# Altium schematic symbol library Microcontroller ARM.SchLib: 148 symbols (part 8 of 11)
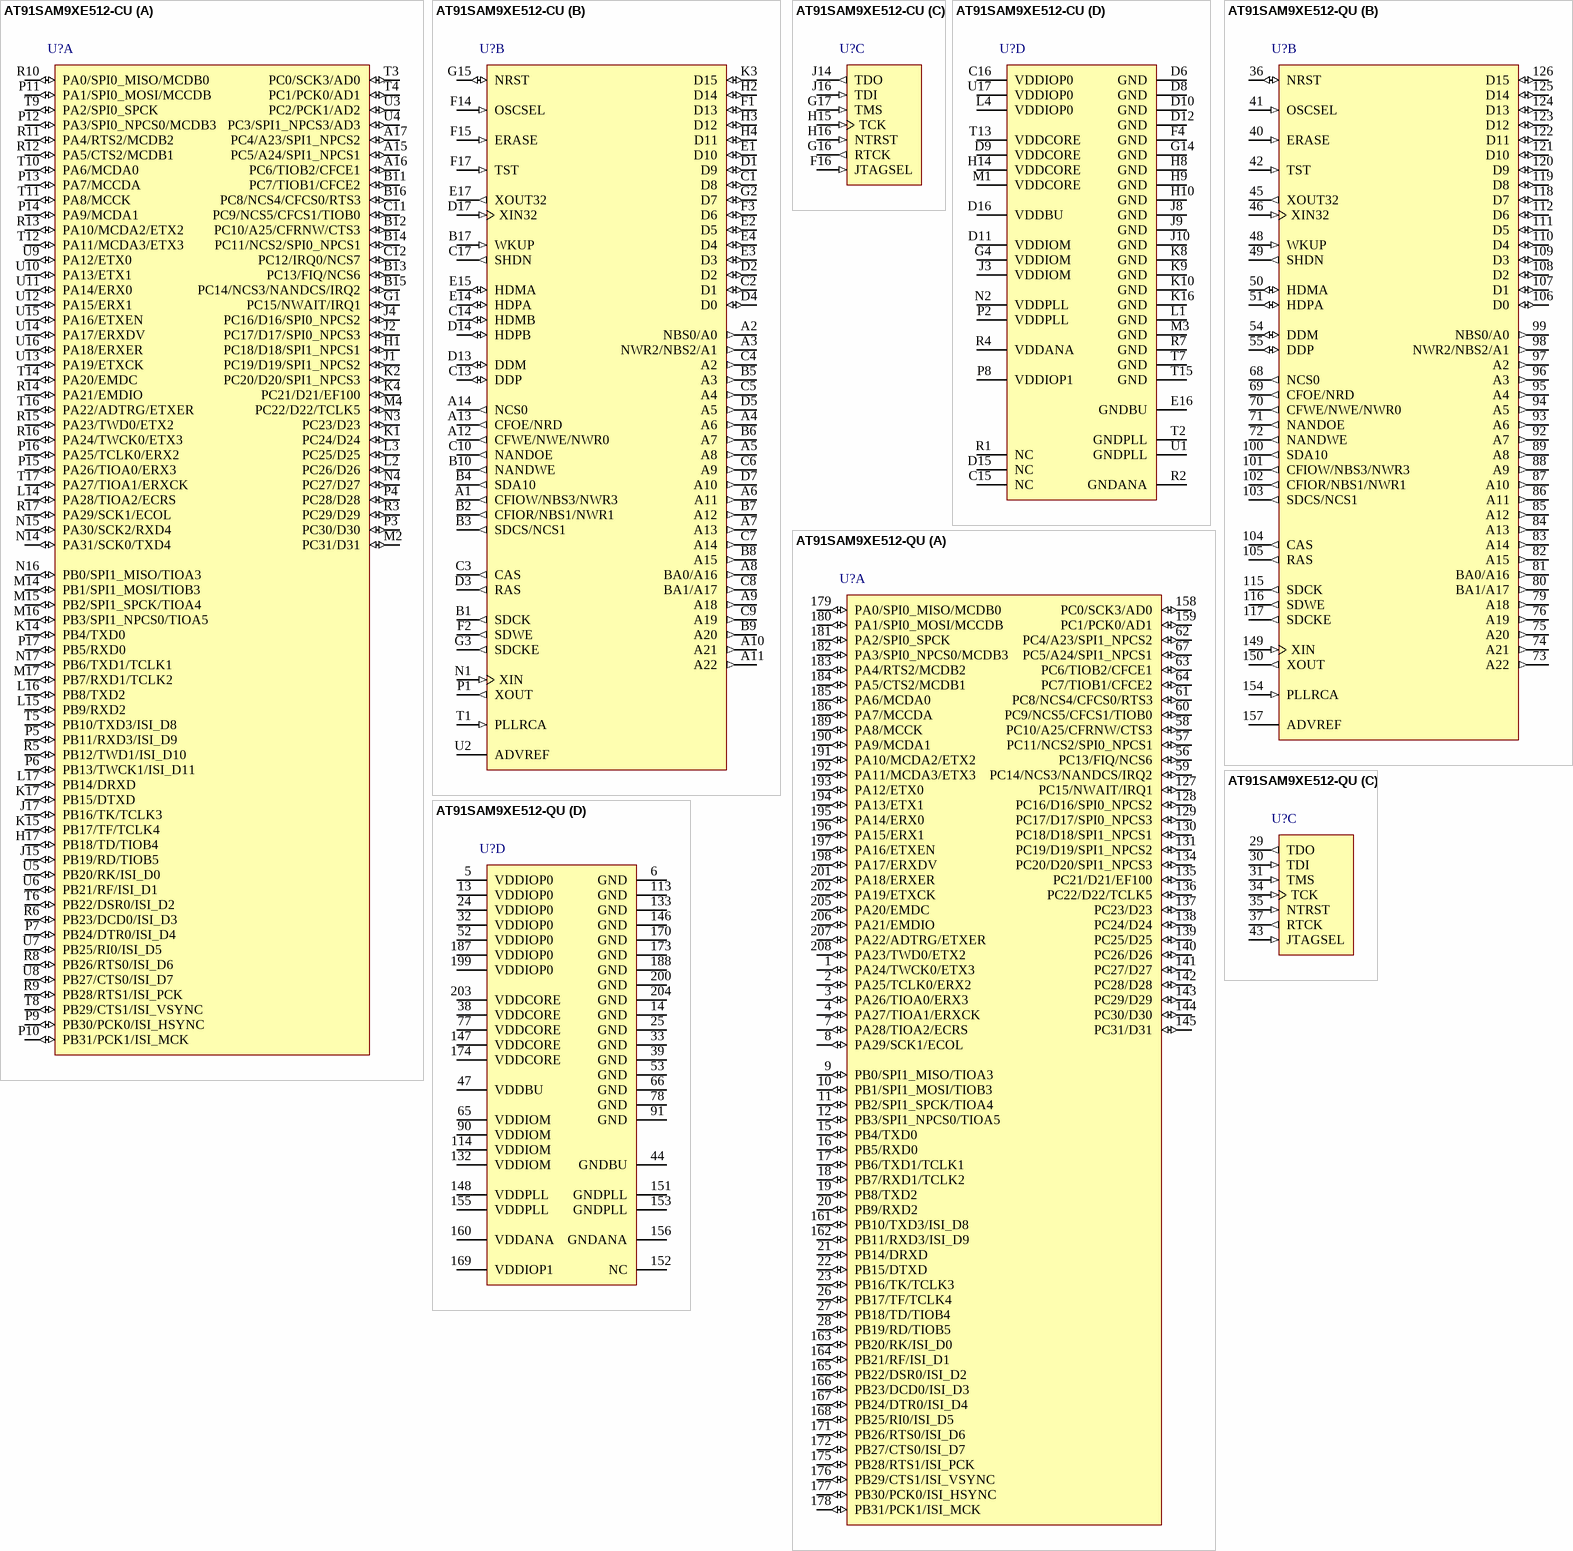
[diagram p68: symbols AT91SAM9XE512-CU to AT91SAM9XE512-QU]

## AT91SAM9XE512-QU
designator U?
AT91 ARM Thumb 32-bit Microcontroller, 512KB Flash, 32KB ROM, 32KB SRAM, EBI, E-MAC, FS USB, ISI, 208-Pin PQFP, Industrial Grade (-40°C to 85°C), Pb-Free; DatasheetVersion: revC, Jan-2010; PackageVersion: Jul-2005; PackageReference: QFP208; PackageDescription: 208-Pin Plastic Shrink Quad Flat Pack 0.5 mm Pitch; Code_JEDEC: MS-022; ComponentLink1Description: Manufacturer URL; ComponentLink1URL: http://www.atmel.com/; ComponentLink2Description: AT91SAM9XE128/256/512 Datasheet; ComponentLink2URL: http://www.atmel.com/dyn/resources/prod_documents/doc6254.pdf; ComponentLink3Description: AT91SAM9XE128/256/512 Summary; ComponentLink3URL: http://www.atmel.com/dyn/resources/prod_documents/6254s.pdf; ComponentLink4Description: ARM926EJ-S Reference Manual; ComponentLink4URL: http://www.atmel.com/dyn/resources/prod_documents/ARM_926EJS_TRM.pdf
footprint QFP208_N (Shrink QFP, 208-Leads, Body 28x28mm, Pitch 0.5mm, IPC Medium Density)
footprint QFP208_L (Shrink QFP, 208-Leads, Body 28x28mm, Pitch 0.5mm, IPC High Density)
footprint QFP208_M (Shrink QFP, 208-Leads, Body 28x28mm, Pitch 0.5mm, IPC Low Density)
part A pins: 1 PA24/TWCK0/ETX3 (io), 2 PA25/TCLK0/ERX2 (io), 3 PA26/TIOA0/ERX3 (io), 4 PA27/TIOA1/ERXCK (io), 7 PA28/TIOA2/ECRS (io), 8 PA29/SCK1/ECOL (io), 9 PB0/SPI1_MISO/TIOA3 (io), 10 PB1/SPI1_MOSI/TIOB3 (io), 11 PB2/SPI1_SPCK/TIOA4 (io), 12 PB3/SPI1_NPCS0/TIOA5 (io), 15 PB4/TXD0 (io), 16 PB5/RXD0 (io), 17 PB6/TXD1/TCLK1 (io), 18 PB7/RXD1/TCLK2 (io), 19 PB8/TXD2 (io), 20 PB9/RXD2 (io), 21 PB14/DRXD (io), 22 PB15/DTXD (io), 23 PB16/TK/TCLK3 (io), 26 PB17/TF/TCLK4 (io), 27 PB18/TD/TIOB4 (io), 28 PB19/RD/TIOB5 (io), 56 PC13/FIQ/NCS6 (io), 57 PC11/NCS2/SPI0_NPCS1 (io), 58 PC10/A25/CFRNW/CTS3 (io), 59 PC14/NCS3/NANDCS/IRQ2 (io), 60 PC9/NCS5/CFCS1/TIOB0 (io), 61 PC8/NCS4/CFCS0/RTS3 (io), 62 PC4/A23/SPI1_NPCS2 (io), 63 PC6/TIOB2/CFCE1 (io), 64 PC7/TIOB1/CFCE2 (io), 67 PC5/A24/SPI1_NPCS1 (io), 127 PC15/NWAIT/IRQ1 (io), 128 PC16/D16/SPI0_NPCS2 (io), 129 PC17/D17/SPI0_NPCS3 (io), 130 PC18/D18/SPI1_NPCS1 (io), 131 PC19/D19/SPI1_NPCS2 (io), 134 PC20/D20/SPI1_NPCS3 (io), 135 PC21/D21/EF100 (io), 136 PC22/D22/TCLK5 (io), 137 PC23/D23 (io), 138 PC24/D24 (io), 139 PC25/D25 (io), 140 PC26/D26 (io), 141 PC27/D27 (io), 142 PC28/D28 (io), 143 PC29/D29 (io), 144 PC30/D30 (io), 145 PC31/D31 (io), 158 PC0/SCK3/AD0 (io), 159 PC1/PCK0/AD1 (io), 161 PB10/TXD3/ISI_D8 (io), 162 PB11/RXD3/ISI_D9 (io), 163 PB20/RK/ISI_D0 (io), 164 PB21/RF/ISI_D1 (io), 165 PB22/DSR0/ISI_D2 (io), 166 PB23/DCD0/ISI_D3 (io), 167 PB24/DTR0/ISI_D4 (io), 168 PB25/RI0/ISI_D5 (io), 171 PB26/RTS0/ISI_D6 (io), 172 PB27/CTS0/ISI_D7 (io), 175 PB28/RTS1/ISI_PCK (io), 176 PB29/CTS1/ISI_VSYNC (io), 177 PB30/PCK0/ISI_HSYNC (io), 178 PB31/PCK1/ISI_MCK (io), 179 PA0/SPI0_MISO/MCDB0 (io), 180 PA1/SPI0_MOSI/MCCDB (io), 181 PA2/SPI0_SPCK (io), 182 PA3/SPI0_NPCS0/MCDB3 (io), 183 PA4/RTS2/MCDB2 (io), 184 PA5/CTS2/MCDB1 (io), 185 PA6/MCDA0 (io), 186 PA7/MCCDA (io), 189 PA8/MCCK (io), 190 PA9/MCDA1 (io), 191 PA10/MCDA2/ETX2 (io), 192 PA11/MCDA3/ETX3 (io), 193 PA12/ETX0 (io), 194 PA13/ETX1 (io), 195 PA14/ERX0 (io), 196 PA15/ERX1 (io), 197 PA16/ETXEN (io), 198 PA17/ERXDV (io), 201 PA18/ERXER (io), 202 PA19/ETXCK (io), 205 PA20/EMDC (io), 206 PA21/EMDIO (io), 207 PA22/ADTRG/ETXER (io), 208 PA23/TWD0/ETX2 (io)
part B pins: 36 NRST (io), 40 ERASE (in), 41 OSCSEL (in), 42 TST (in), 45 XOUT32 (out), 46 XIN32 (in), 48 WKUP (in), 49 SHDN (out), 50 HDMA (io), 51 HDPA (io), 54 DDM (io), 55 DDP (io), 68 NCS0 (out), 69 CFOE/NRD (out), 70 CFWE/NWE/NWR0 (out), 71 NANDOE (out), 72 NANDWE (out), 73 A22 (out), 74 A21 (out), 75 A20 (out), 76 A19 (out), 79 A18 (out), 80 BA1/A17 (out), 81 BA0/A16 (out), 82 A15 (out), 83 A14 (out), 84 A13 (out), 85 A12 (out), 86 A11 (out), 87 A10 (out), 88 A9 (out), 89 A8 (out), 92 A7 (out), 93 A6 (out), 94 A5 (out), 95 A4 (out), 96 A3 (out), 97 A2 (out), 98 NWR2/NBS2/A1 (out), 99 NBS0/A0 (out), 100 SDA10 (out), 101 CFIOW/NBS3/NWR3 (out), 102 CFIOR/NBS1/NWR1 (out), 103 SDCS/NCS1 (out), 104 CAS (out), 105 RAS (out), 106 D0 (io), 107 D1 (io), 108 D2 (io), 109 D3 (io), 110 D4 (io), 111 D5 (io), 112 D6 (io), 115 SDCK (out), 116 SDWE (out), 117 SDCKE (out), 118 D7 (io), 119 D8 (io), 120 D9 (io), 121 D10 (io), 122 D11 (io), 123 D12 (io), 124 D13 (io), 125 D14 (io), 126 D15 (io), 149 XIN (in), 150 XOUT (out), 154 PLLRCA (in), 157 ADVREF (power)
part C pins: 29 TDO (out), 30 TDI (in), 31 TMS (in), 34 TCK (in), 35 NTRST (in), 37 RTCK (out), 43 JTAGSEL (in)
part D pins: 5 VDDIOP0 (power), 6 GND (power), 13 VDDIOP0 (power), 14 GND (power), 24 VDDIOP0 (power), 25 GND (power), 32 VDDIOP0 (power), 33 GND (power), 38 VDDCORE (power), 39 GND (power), 44 GNDBU (power), 47 VDDBU (power), 52 VDDIOP0 (power), 53 GND (power), 65 VDDIOM (power), 66 GND (power), 77 VDDCORE (power), 78 GND (power), 90 VDDIOM (power), 91 GND (power), 113 GND (power), 114 VDDIOM (power), 132 VDDIOM (power), 133 GND (power), 146 GND (power), 147 VDDCORE (power), 148 VDDPLL (power), 151 GNDPLL (power), 152 NC, 153 GNDPLL (power), 155 VDDPLL (power), 156 GNDANA (power), 160 VDDANA (power), 169 VDDIOP1 (power), 170 GND (power), 173 GND (power), 174 VDDCORE (power), 187 VDDIOP0 (power), 188 GND (power), 199 VDDIOP0 (power), 200 GND (power), 203 VDDCORE (power), 204 GND (power)

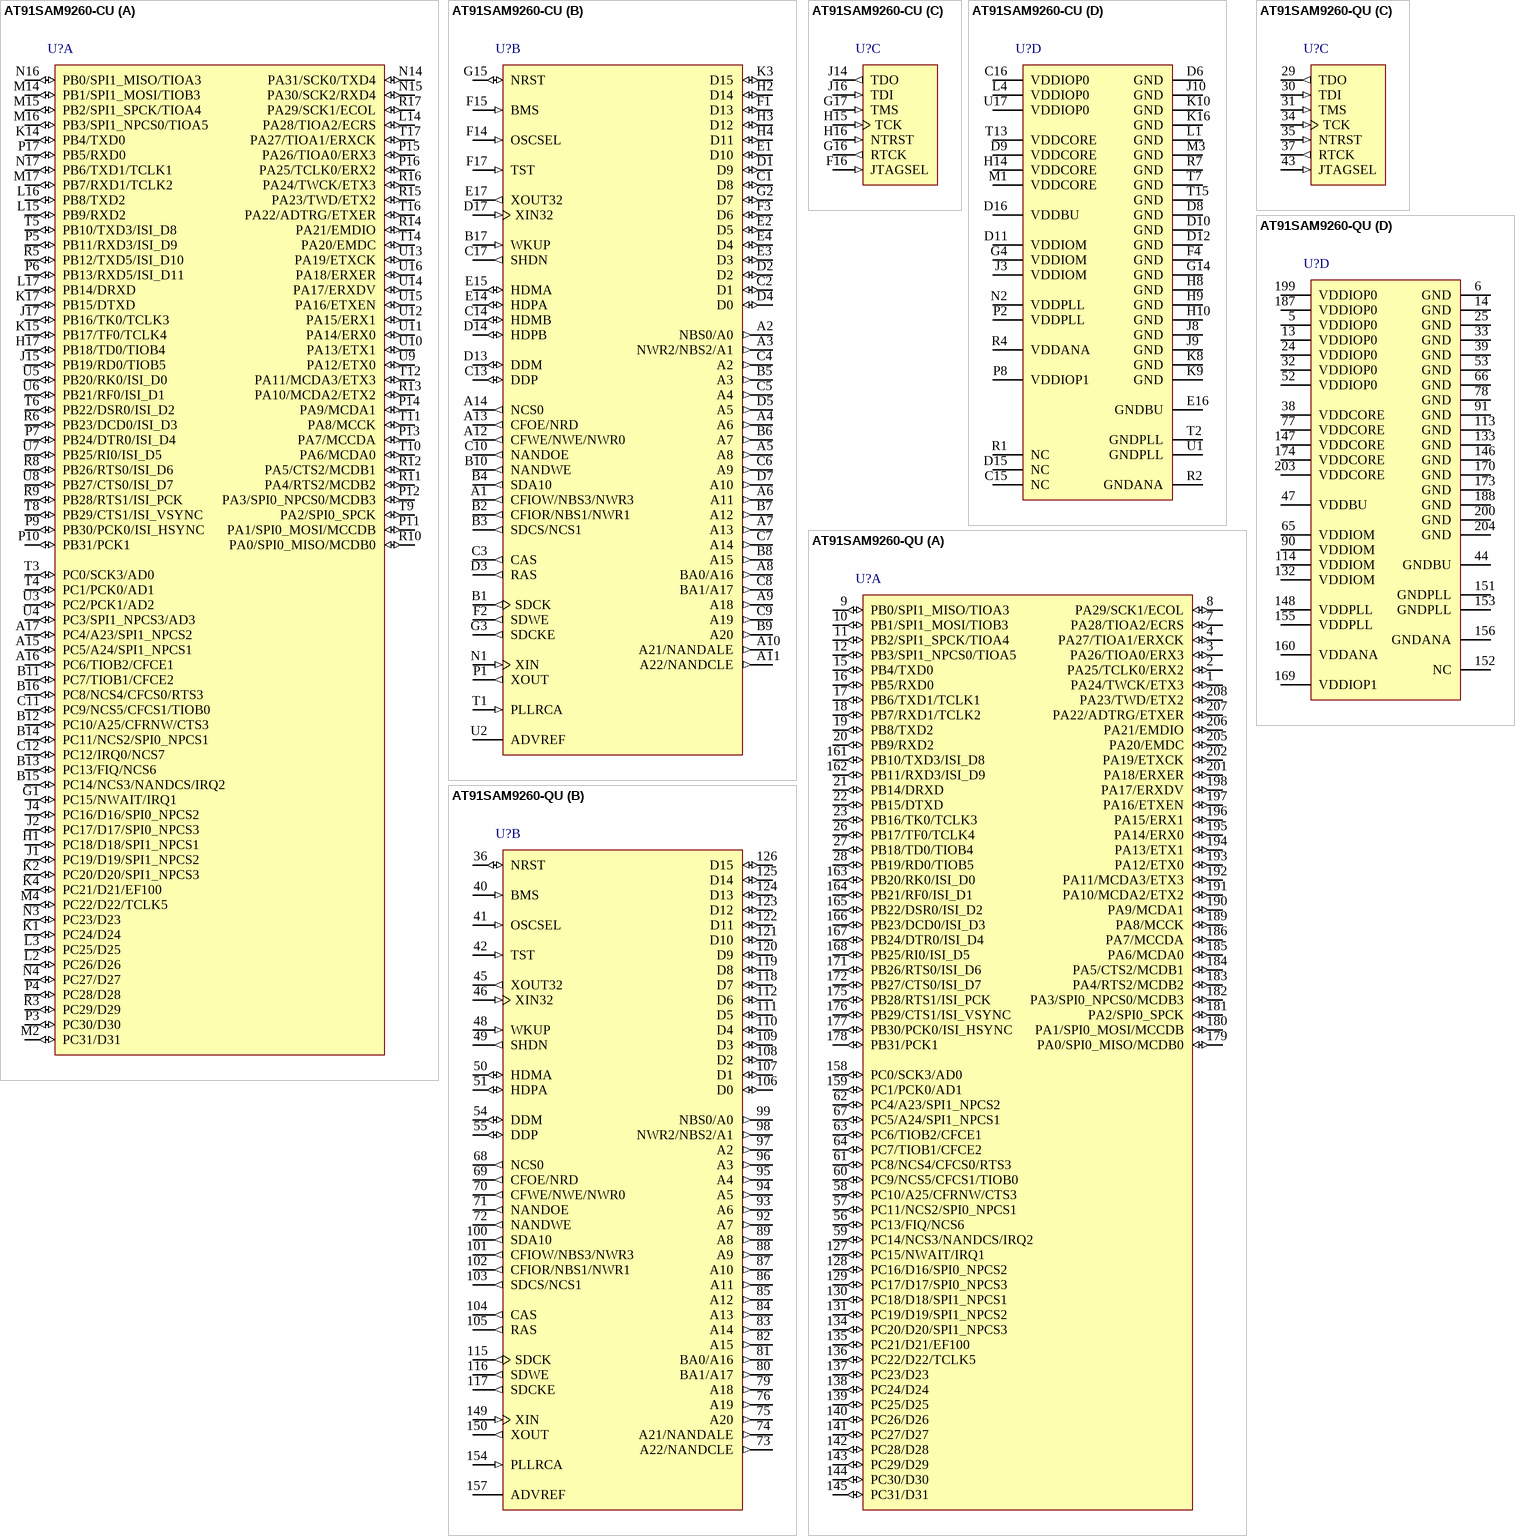
[diagram p44: symbols AT91SAM9260-CU to AT91SAM9260-QU]

## AT91SAM9260-CU
designator U?
AT91 ARM Thumb 32-bit Embedded MPU, 210MHz, 32KB ROM, 2x4KB SRAM, EBI, E-MAC, FS USB, 217-Pin LFBGA, Industrial Grade (-40°C to 85°C), Pb-Free; DatasheetVersion: revJ, May-2011; PackageVersion: 2011; PackageReference: LFBGA217; PackageDescription: 217-Ball Plastic Low Profile Fine-Pitch BGA, 15 x 15 mm Body, 0.8 mm Pitch; Code_JEDEC: MO-205; ComponentLink1Description: Manufacturer URL; ComponentLink1URL: http://www.atmel.com/; ComponentLink2Description: AT91SAM9260 Datasheet; ComponentLink2URL: http://www.atmel.com/dyn/resources/prod_documents/doc6221.pdf; ComponentLink3Description: AT91SAM9260 Summary; ComponentLink3URL: http://www.atmel.com/dyn/resources/prod_documents/6221s.pdf; ComponentLink4Description: ARM9E-S Reference Manual; ComponentLink4URL: http://www.atmel.com/dyn/resources/prod_documents/doc6178.pdf
footprint LFBGA217 (BGA, 208-Leads, Body 15x15mm, Pitch 0.8mm, Solder Mask Defined Pads)
part A pins: A15 PC5/A24/SPI1_NPCS1 (io), A16 PC6/TIOB2/CFCE1 (io), A17 PC4/A23/SPI1_NPCS2 (io), B11 PC7/TIOB1/CFCE2 (io), B12 PC10/A25/CFRNW/CTS3 (io), B13 PC13/FIQ/NCS6 (io), B14 PC11/NCS2/SPI0_NPCS1 (io), B15 PC14/NCS3/NANDCS/IRQ2 (io), B16 PC8/NCS4/CFCS0/RTS3 (io), C11 PC9/NCS5/CFCS1/TIOB0 (io), C12 PC12/IRQ0/NCS7 (io), G1 PC15/NWAIT/IRQ1 (io), H1 PC18/D18/SPI1_NPCS1 (io), H17 PB18/TD0/TIOB4 (io), J1 PC19/D19/SPI1_NPCS2 (io), J2 PC17/D17/SPI0_NPCS3 (io), J4 PC16/D16/SPI0_NPCS2 (io), J15 PB19/RD0/TIOB5 (io), J17 PB16/TK0/TCLK3 (io), K1 PC24/D24 (io), K2 PC20/D20/SPI1_NPCS3 (io), K4 PC21/D21/EF100 (io), K14 PB4/TXD0 (io), K15 PB17/TF0/TCLK4 (io), K17 PB15/DTXD (io), L2 PC26/D26 (io), L3 PC25/D25 (io), L14 PA28/TIOA2/ECRS (io), L15 PB9/RXD2 (io), L16 PB8/TXD2 (io), L17 PB14/DRXD (io), M2 PC31/D31 (io), M4 PC22/D22/TCLK5 (io), M14 PB1/SPI1_MOSI/TIOB3 (io), M15 PB2/SPI1_SPCK/TIOA4 (io), M16 PB3/SPI1_NPCS0/TIOA5 (io), M17 PB7/RXD1/TCLK2 (io), N3 PC23/D23 (io), N4 PC27/D27 (io), N14 PA31/SCK0/TXD4 (io), N15 PA30/SCK2/RXD4 (io), N16 PB0/SPI1_MISO/TIOA3 (io), N17 PB6/TXD1/TCLK1 (io), P3 PC30/D30 (io), P4 PC28/D28 (io), P5 PB11/RXD3/ISI_D9 (io), P6 PB13/RXD5/ISI_D11 (io), P7 PB24/DTR0/ISI_D4 (io), P9 PB30/PCK0/ISI_HSYNC (io), P10 PB31/PCK1 (io), P11 PA1/SPI0_MOSI/MCCDB (io), P12 PA3/SPI0_NPCS0/MCDB3 (io), P13 PA7/MCCDA (io), P14 PA9/MCDA1 (io), P15 PA26/TIOA0/ERX3 (io), P16 PA25/TCLK0/ERX2 (io), P17 PB5/RXD0 (io), R3 PC29/D29 (io), R5 PB12/TXD5/ISI_D10 (io), R6 PB23/DCD0/ISI_D3 (io), R8 PB26/RTS0/ISI_D6 (io), R9 PB28/RTS1/ISI_PCK (io), R10 PA0/SPI0_MISO/MCDB0 (io), R11 PA4/RTS2/MCDB2 (io), R12 PA5/CTS2/MCDB1 (io), R13 PA10/MCDA2/ETX2 (io), R14 PA21/EMDIO (io), R15 PA23/TWD/ETX2 (io), R16 PA24/TWCK/ETX3 (io), R17 PA29/SCK1/ECOL (io), T3 PC0/SCK3/AD0 (io), T4 PC1/PCK0/AD1 (io), T5 PB10/TXD3/ISI_D8 (io), T6 PB22/DSR0/ISI_D2 (io), T8 PB29/CTS1/ISI_VSYNC (io), T9 PA2/SPI0_SPCK (io), T10 PA6/MCDA0 (io), T11 PA8/MCCK (io), T12 PA11/MCDA3/ETX3 (io), T14 PA20/EMDC (io), T16 PA22/ADTRG/ETXER (io), T17 PA27/TIOA1/ERXCK (io), U3 PC2/PCK1/AD2 (io), U4 PC3/SPI1_NPCS3/AD3 (io), U5 PB20/RK0/ISI_D0 (io), U6 PB21/RF0/ISI_D1 (io), U7 PB25/RI0/ISI_D5 (io), U8 PB27/CTS0/ISI_D7 (io), U9 PA12/ETX0 (io), U10 PA13/ETX1 (io), U11 PA14/ERX0 (io), U12 PA15/ERX1 (io), U13 PA19/ETXCK (io), U14 PA17/ERXDV (io), U15 PA16/ETXEN (io), U16 PA18/ERXER (io)
part B pins: A1 CFIOW/NBS3/NWR3 (out), A2 NBS0/A0 (out), A3 NWR2/NBS2/A1 (out), A4 A6 (out), A5 A8 (out), A6 A11 (out), A7 A13 (out), A8 BA0/A16 (out), A9 A18 (out), A10 A21/NANDALE (out), A11 A22/NANDCLE (out), A12 CFWE/NWE/NWR0 (out), A13 CFOE/NRD (out), A14 NCS0 (out), B1 SDCK (out), B2 CFIOR/NBS1/NWR1 (out), B3 SDCS/NCS1 (out), B4 SDA10 (out), B5 A3 (out), B6 A7 (out), B7 A12 (out), B8 A15 (out), B9 A20 (out), B10 NANDWE (out), B17 WKUP (in), C1 D8 (io), C2 D1 (io), C3 CAS (out), C4 A2 (out), C5 A4 (out), C6 A9 (out), C7 A14 (out), C8 BA1/A17 (out), C9 A19 (out), C10 NANDOE (out), C13 DDP (io), C14 HDMB (io), C17 SHDN (out), D1 D9 (io), D2 (io), D3 RAS (out), D4 D0 (io), D5 A5 (out), D7 A10 (out), D13 DDM (io), D14 HDPB (io), D17 XIN32 (in), E1 D10 (io), E2 D5 (io), E3 D3 (io), E4 D4 (io), E14 HDPA (io), E15 HDMA (io), E17 XOUT32 (out), F1 D13 (io), F2 SDWE (out), F3 D6 (io), F14 OSCSEL (in), F15 BMS (in), F17 TST (in), G2 D7 (io), G3 SDCKE (out), G15 NRST (io), H2 D14 (io), H3 D12 (io), H4 D11 (io), K3 D15 (io), N1 XIN (in), P1 XOUT (out), T1 PLLRCA (in), U2 ADVREF (power)
part C pins: F16 JTAGSEL (in), G16 RTCK (out), G17 TMS (in), H15 TCK (in), H16 NTRST (in), J14 TDO (out), J16 TDI (in)
part D pins: C15 NC, C16 VDDIOP0 (power), D6 GND (power), D8 GND (power), D9 VDDCORE (power), D10 GND (power), D11 VDDIOM (power), D12 GND (power), D15 NC, D16 VDDBU (power), E16 GNDBU (power), F4 GND (power), G4 VDDIOM (power), G14 GND (power), H8 GND (power), H9 GND (power), H10 GND (power), H14 VDDCORE (power), J3 VDDIOM (power), J8 GND (power), J9 GND (power), J10 GND (power), K8 GND (power), K9 GND (power), K10 GND (power), K16 GND (power), L1 GND (power), L4 VDDIOP0 (power), M1 VDDCORE (power), M3 GND (power), N2 VDDPLL (power), P2 VDDPLL (power), P8 VDDIOP1 (power), R1 NC, R2 GNDANA (power), R4 VDDANA (power), R7 GND (power), T2 GNDPLL (power), T7 GND (power), T13 VDDCORE (power), T15 GND (power), U1 GNDPLL (power), U17 VDDIOP0 (power)

## AT91SAM9260-QU
designator U?
AT91 ARM Thumb 32-bit Embedded MPU, 210MHz, 32KB ROM, 2x4KB SRAM, EBI, E-MAC, FS USB, 208-Pin PQFP, Industrial Grade (-40°C to 85°C), Pb-Free; DatasheetVersion: revJ, May-2011; PackageVersion: Jul-2005; PackageReference: QFP208; PackageDescription: 208-Pin Plastic Shrink Quad Flat Pack 0.5 mm Pitch; Code_JEDEC: MS-022; ComponentLink1Description: Manufacturer URL; ComponentLink1URL: http://www.atmel.com/; ComponentLink2Description: AT91SAM9260 Datasheet; ComponentLink2URL: http://www.atmel.com/dyn/resources/prod_documents/doc6221.pdf; ComponentLink3Description: AT91SAM9260 Summary; ComponentLink3URL: http://www.atmel.com/dyn/resources/prod_documents/6221s.pdf; ComponentLink4Description: ARM9E-S Reference Manual; ComponentLink4URL: http://www.atmel.com/dyn/resources/prod_documents/doc6178.pdf
footprint QFP208_N (Shrink QFP, 208-Leads, Body 28x28mm, Pitch 0.5mm, IPC Medium Density)
footprint QFP208_L (Shrink QFP, 208-Leads, Body 28x28mm, Pitch 0.5mm, IPC High Density)
footprint QFP208_M (Shrink QFP, 208-Leads, Body 28x28mm, Pitch 0.5mm, IPC Low Density)
part A pins: 1 PA24/TWCK/ETX3 (io), 2 PA25/TCLK0/ERX2 (io), 3 PA26/TIOA0/ERX3 (io), 4 PA27/TIOA1/ERXCK (io), 7 PA28/TIOA2/ECRS (io), 8 PA29/SCK1/ECOL (io), 9 PB0/SPI1_MISO/TIOA3 (io), 10 PB1/SPI1_MOSI/TIOB3 (io), 11 PB2/SPI1_SPCK/TIOA4 (io), 12 PB3/SPI1_NPCS0/TIOA5 (io), 15 PB4/TXD0 (io), 16 PB5/RXD0 (io), 17 PB6/TXD1/TCLK1 (io), 18 PB7/RXD1/TCLK2 (io), 19 PB8/TXD2 (io), 20 PB9/RXD2 (io), 21 PB14/DRXD (io), 22 PB15/DTXD (io), 23 PB16/TK0/TCLK3 (io), 26 PB17/TF0/TCLK4 (io), 27 PB18/TD0/TIOB4 (io), 28 PB19/RD0/TIOB5 (io), 56 PC13/FIQ/NCS6 (io), 57 PC11/NCS2/SPI0_NPCS1 (io), 58 PC10/A25/CFRNW/CTS3 (io), 59 PC14/NCS3/NANDCS/IRQ2 (io), 60 PC9/NCS5/CFCS1/TIOB0 (io), 61 PC8/NCS4/CFCS0/RTS3 (io), 62 PC4/A23/SPI1_NPCS2 (io), 63 PC6/TIOB2/CFCE1 (io), 64 PC7/TIOB1/CFCE2 (io), 67 PC5/A24/SPI1_NPCS1 (io), 127 PC15/NWAIT/IRQ1 (io), 128 PC16/D16/SPI0_NPCS2 (io), 129 PC17/D17/SPI0_NPCS3 (io), 130 PC18/D18/SPI1_NPCS1 (io), 131 PC19/D19/SPI1_NPCS2 (io), 134 PC20/D20/SPI1_NPCS3 (io), 135 PC21/D21/EF100 (io), 136 PC22/D22/TCLK5 (io), 137 PC23/D23 (io), 138 PC24/D24 (io), 139 PC25/D25 (io), 140 PC26/D26 (io), 141 PC27/D27 (io), 142 PC28/D28 (io), 143 PC29/D29 (io), 144 PC30/D30 (io), 145 PC31/D31 (io), 158 PC0/SCK3/AD0 (io), 159 PC1/PCK0/AD1 (io), 161 PB10/TXD3/ISI_D8 (io), 162 PB11/RXD3/ISI_D9 (io), 163 PB20/RK0/ISI_D0 (io), 164 PB21/RF0/ISI_D1 (io), 165 PB22/DSR0/ISI_D2 (io), 166 PB23/DCD0/ISI_D3 (io), 167 PB24/DTR0/ISI_D4 (io), 168 PB25/RI0/ISI_D5 (io), 171 PB26/RTS0/ISI_D6 (io), 172 PB27/CTS0/ISI_D7 (io), 175 PB28/RTS1/ISI_PCK (io), 176 PB29/CTS1/ISI_VSYNC (io), 177 PB30/PCK0/ISI_HSYNC (io), 178 PB31/PCK1 (io), 179 PA0/SPI0_MISO/MCDB0 (io), 180 PA1/SPI0_MOSI/MCCDB (io), 181 PA2/SPI0_SPCK (io), 182 PA3/SPI0_NPCS0/MCDB3 (io), 183 PA4/RTS2/MCDB2 (io), 184 PA5/CTS2/MCDB1 (io), 185 PA6/MCDA0 (io), 186 PA7/MCCDA (io), 189 PA8/MCCK (io), 190 PA9/MCDA1 (io), 191 PA10/MCDA2/ETX2 (io), 192 PA11/MCDA3/ETX3 (io), 193 PA12/ETX0 (io), 194 PA13/ETX1 (io), 195 PA14/ERX0 (io), 196 PA15/ERX1 (io), 197 PA16/ETXEN (io), 198 PA17/ERXDV (io), 201 PA18/ERXER (io), 202 PA19/ETXCK (io), 205 PA20/EMDC (io), 206 PA21/EMDIO (io), 207 PA22/ADTRG/ETXER (io), 208 PA23/TWD/ETX2 (io)
part B pins: 36 NRST (io), 40 BMS (in), 41 OSCSEL (in), 42 TST (in), 45 XOUT32 (out), 46 XIN32 (in), 48 WKUP (in), 49 SHDN (out), 50 HDMA (io), 51 HDPA (io), 54 DDM (io), 55 DDP (io), 68 NCS0 (out), 69 CFOE/NRD (out), 70 CFWE/NWE/NWR0 (out), 71 NANDOE (out), 72 NANDWE (out), 73 A22/NANDCLE (out), 74 A21/NANDALE (out), 75 A20 (out), 76 A19 (out), 79 A18 (out), 80 BA1/A17 (out), 81 BA0/A16 (out), 82 A15 (out), 83 A14 (out), 84 A13 (out), 85 A12 (out), 86 A11 (out), 87 A10 (out), 88 A9 (out), 89 A8 (out), 92 A7 (out), 93 A6 (out), 94 A5 (out), 95 A4 (out), 96 A3 (out), 97 A2 (out), 98 NWR2/NBS2/A1 (out), 99 NBS0/A0 (out), 100 SDA10 (out), 101 CFIOW/NBS3/NWR3 (out), 102 CFIOR/NBS1/NWR1 (out), 103 SDCS/NCS1 (out), 104 CAS (out), 105 RAS (out), 106 D0 (io), 107 D1 (io), 108 D2 (io), 109 D3 (io), 110 D4 (io), 111 D5 (io), 112 D6 (io), 115 SDCK (out), 116 SDWE (out), 117 SDCKE (out), 118 D7 (io), 119 D8 (io), 120 D9 (io), 121 D10 (io), 122 D11 (io), 123 D12 (io), 124 D13 (io), 125 D14 (io), 126 D15 (io), 149 XIN (in), 150 XOUT (out), 154 PLLRCA (in), 157 ADVREF (power)
part C pins: 29 TDO (out), 30 TDI (in), 31 TMS (in), 34 TCK (in), 35 NTRST (in), 37 RTCK (out), 43 JTAGSEL (in)
part D pins: 5 VDDIOP0 (power), 6 GND (power), 13 VDDIOP0 (power), 14 GND (power), 24 VDDIOP0 (power), 25 GND (power), 32 VDDIOP0 (power), 33 GND (power), 38 VDDCORE (power), 39 GND (power), 44 GNDBU (power), 47 VDDBU (power), 52 VDDIOP0 (power), 53 GND (power), 65 VDDIOM (power), 66 GND (power), 77 VDDCORE (power), 78 GND (power), 90 VDDIOM (power), 91 GND (power), 113 GND (power), 114 VDDIOM (power), 132 VDDIOM (power), 133 GND (power), 146 GND (power), 147 VDDCORE (power), 148 VDDPLL (power), 151 GNDPLL (power), 152 NC, 153 GNDPLL (power), 155 VDDPLL (power), 156 GNDANA (power), 160 VDDANA (power), 169 VDDIOP1 (power), 170 GND (power), 173 GND (power), 174 VDDCORE (power), 187 VDDIOP0 (power), 188 GND (power), 199 VDDIOP0 (power), 200 GND (power), 203 VDDCORE (power), 204 GND (power)

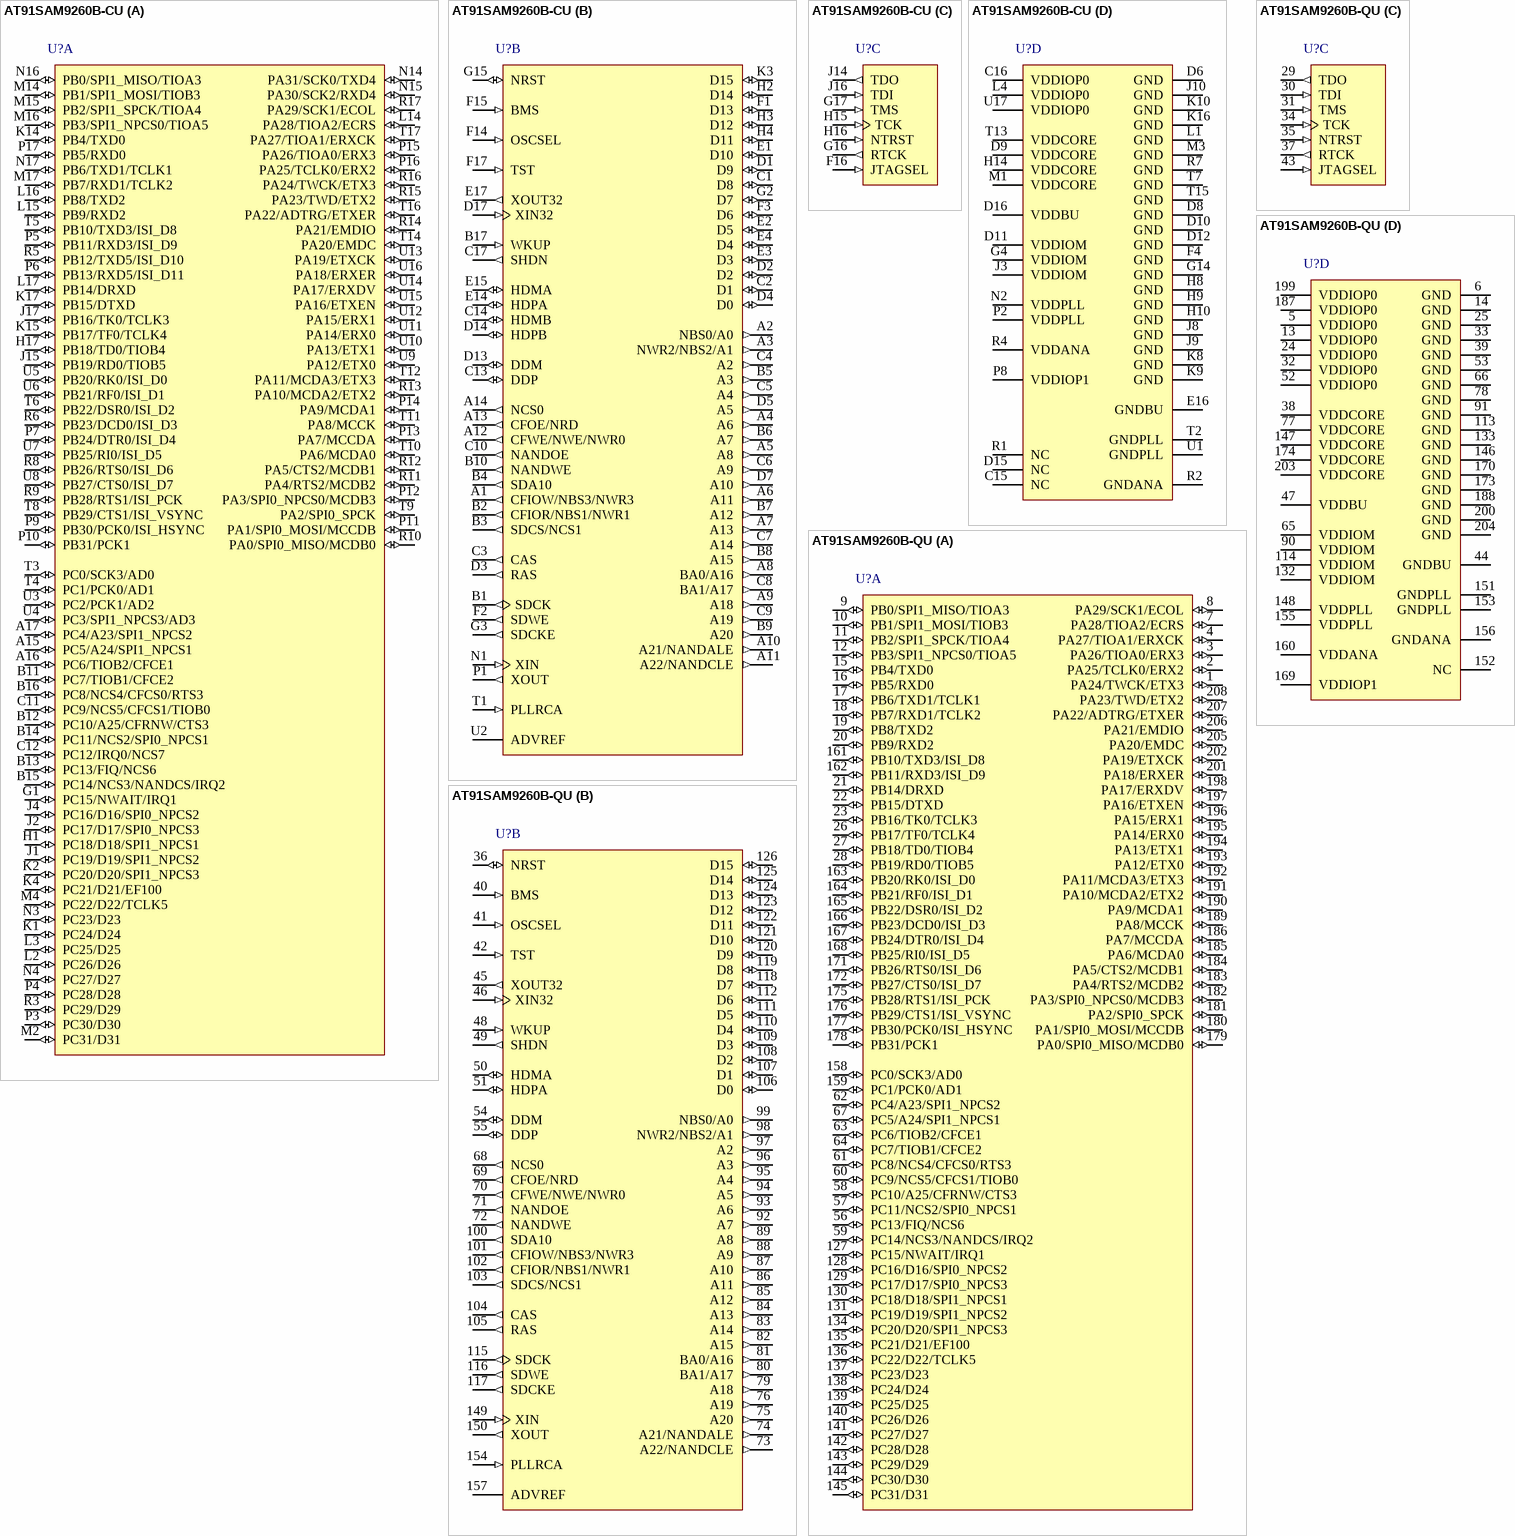
[diagram p45: symbols AT91SAM9260B-CU to AT91SAM9260B-QU]

## AT91SAM9260B-CU
designator U?
AT91 ARM Thumb 32-bit Embedded MPU, 210MHz, 32KB ROM, 2x4KB SRAM, EBI, E-MAC, FS USB, 217-Pin LFBGA, Industrial Grade (-40°C to 85°C), Pb-Free; DatasheetVersion: revJ, May-2011; PackageVersion: 2011; PackageReference: LFBGA217; PackageDescription: 217-Ball Plastic Low Profile Fine-Pitch BGA, 15 x 15 mm Body, 0.8 mm Pitch; Code_JEDEC: MO-205; ComponentLink1Description: Manufacturer URL; ComponentLink1URL: http://www.atmel.com/; ComponentLink2Description: AT91SAM9260 Datasheet; ComponentLink2URL: http://www.atmel.com/dyn/resources/prod_documents/doc6221.pdf; ComponentLink3Description: AT91SAM9260 Summary; ComponentLink3URL: http://www.atmel.com/dyn/resources/prod_documents/6221s.pdf; ComponentLink4Description: ARM9E-S Reference Manual; ComponentLink4URL: http://www.atmel.com/dyn/resources/prod_documents/doc6178.pdf
footprint LFBGA217 (BGA, 208-Leads, Body 15x15mm, Pitch 0.8mm, Solder Mask Defined Pads)
part A pins: A15 PC5/A24/SPI1_NPCS1 (io), A16 PC6/TIOB2/CFCE1 (io), A17 PC4/A23/SPI1_NPCS2 (io), B11 PC7/TIOB1/CFCE2 (io), B12 PC10/A25/CFRNW/CTS3 (io), B13 PC13/FIQ/NCS6 (io), B14 PC11/NCS2/SPI0_NPCS1 (io), B15 PC14/NCS3/NANDCS/IRQ2 (io), B16 PC8/NCS4/CFCS0/RTS3 (io), C11 PC9/NCS5/CFCS1/TIOB0 (io), C12 PC12/IRQ0/NCS7 (io), G1 PC15/NWAIT/IRQ1 (io), H1 PC18/D18/SPI1_NPCS1 (io), H17 PB18/TD0/TIOB4 (io), J1 PC19/D19/SPI1_NPCS2 (io), J2 PC17/D17/SPI0_NPCS3 (io), J4 PC16/D16/SPI0_NPCS2 (io), J15 PB19/RD0/TIOB5 (io), J17 PB16/TK0/TCLK3 (io), K1 PC24/D24 (io), K2 PC20/D20/SPI1_NPCS3 (io), K4 PC21/D21/EF100 (io), K14 PB4/TXD0 (io), K15 PB17/TF0/TCLK4 (io), K17 PB15/DTXD (io), L2 PC26/D26 (io), L3 PC25/D25 (io), L14 PA28/TIOA2/ECRS (io), L15 PB9/RXD2 (io), L16 PB8/TXD2 (io), L17 PB14/DRXD (io), M2 PC31/D31 (io), M4 PC22/D22/TCLK5 (io), M14 PB1/SPI1_MOSI/TIOB3 (io), M15 PB2/SPI1_SPCK/TIOA4 (io), M16 PB3/SPI1_NPCS0/TIOA5 (io), M17 PB7/RXD1/TCLK2 (io), N3 PC23/D23 (io), N4 PC27/D27 (io), N14 PA31/SCK0/TXD4 (io), N15 PA30/SCK2/RXD4 (io), N16 PB0/SPI1_MISO/TIOA3 (io), N17 PB6/TXD1/TCLK1 (io), P3 PC30/D30 (io), P4 PC28/D28 (io), P5 PB11/RXD3/ISI_D9 (io), P6 PB13/RXD5/ISI_D11 (io), P7 PB24/DTR0/ISI_D4 (io), P9 PB30/PCK0/ISI_HSYNC (io), P10 PB31/PCK1 (io), P11 PA1/SPI0_MOSI/MCCDB (io), P12 PA3/SPI0_NPCS0/MCDB3 (io), P13 PA7/MCCDA (io), P14 PA9/MCDA1 (io), P15 PA26/TIOA0/ERX3 (io), P16 PA25/TCLK0/ERX2 (io), P17 PB5/RXD0 (io), R3 PC29/D29 (io), R5 PB12/TXD5/ISI_D10 (io), R6 PB23/DCD0/ISI_D3 (io), R8 PB26/RTS0/ISI_D6 (io), R9 PB28/RTS1/ISI_PCK (io), R10 PA0/SPI0_MISO/MCDB0 (io), R11 PA4/RTS2/MCDB2 (io), R12 PA5/CTS2/MCDB1 (io), R13 PA10/MCDA2/ETX2 (io), R14 PA21/EMDIO (io), R15 PA23/TWD/ETX2 (io), R16 PA24/TWCK/ETX3 (io), R17 PA29/SCK1/ECOL (io), T3 PC0/SCK3/AD0 (io), T4 PC1/PCK0/AD1 (io), T5 PB10/TXD3/ISI_D8 (io), T6 PB22/DSR0/ISI_D2 (io), T8 PB29/CTS1/ISI_VSYNC (io), T9 PA2/SPI0_SPCK (io), T10 PA6/MCDA0 (io), T11 PA8/MCCK (io), T12 PA11/MCDA3/ETX3 (io), T14 PA20/EMDC (io), T16 PA22/ADTRG/ETXER (io), T17 PA27/TIOA1/ERXCK (io), U3 PC2/PCK1/AD2 (io), U4 PC3/SPI1_NPCS3/AD3 (io), U5 PB20/RK0/ISI_D0 (io), U6 PB21/RF0/ISI_D1 (io), U7 PB25/RI0/ISI_D5 (io), U8 PB27/CTS0/ISI_D7 (io), U9 PA12/ETX0 (io), U10 PA13/ETX1 (io), U11 PA14/ERX0 (io), U12 PA15/ERX1 (io), U13 PA19/ETXCK (io), U14 PA17/ERXDV (io), U15 PA16/ETXEN (io), U16 PA18/ERXER (io)
part B pins: A1 CFIOW/NBS3/NWR3 (out), A2 NBS0/A0 (out), A3 NWR2/NBS2/A1 (out), A4 A6 (out), A5 A8 (out), A6 A11 (out), A7 A13 (out), A8 BA0/A16 (out), A9 A18 (out), A10 A21/NANDALE (out), A11 A22/NANDCLE (out), A12 CFWE/NWE/NWR0 (out), A13 CFOE/NRD (out), A14 NCS0 (out), B1 SDCK (out), B2 CFIOR/NBS1/NWR1 (out), B3 SDCS/NCS1 (out), B4 SDA10 (out), B5 A3 (out), B6 A7 (out), B7 A12 (out), B8 A15 (out), B9 A20 (out), B10 NANDWE (out), B17 WKUP (in), C1 D8 (io), C2 D1 (io), C3 CAS (out), C4 A2 (out), C5 A4 (out), C6 A9 (out), C7 A14 (out), C8 BA1/A17 (out), C9 A19 (out), C10 NANDOE (out), C13 DDP (io), C14 HDMB (io), C17 SHDN (out), D1 D9 (io), D2 (io), D3 RAS (out), D4 D0 (io), D5 A5 (out), D7 A10 (out), D13 DDM (io), D14 HDPB (io), D17 XIN32 (in), E1 D10 (io), E2 D5 (io), E3 D3 (io), E4 D4 (io), E14 HDPA (io), E15 HDMA (io), E17 XOUT32 (out), F1 D13 (io), F2 SDWE (out), F3 D6 (io), F14 OSCSEL (in), F15 BMS (in), F17 TST (in), G2 D7 (io), G3 SDCKE (out), G15 NRST (io), H2 D14 (io), H3 D12 (io), H4 D11 (io), K3 D15 (io), N1 XIN (in), P1 XOUT (out), T1 PLLRCA (in), U2 ADVREF (power)
part C pins: F16 JTAGSEL (in), G16 RTCK (out), G17 TMS (in), H15 TCK (in), H16 NTRST (in), J14 TDO (out), J16 TDI (in)
part D pins: C15 NC, C16 VDDIOP0 (power), D6 GND (power), D8 GND (power), D9 VDDCORE (power), D10 GND (power), D11 VDDIOM (power), D12 GND (power), D15 NC, D16 VDDBU (power), E16 GNDBU (power), F4 GND (power), G4 VDDIOM (power), G14 GND (power), H8 GND (power), H9 GND (power), H10 GND (power), H14 VDDCORE (power), J3 VDDIOM (power), J8 GND (power), J9 GND (power), J10 GND (power), K8 GND (power), K9 GND (power), K10 GND (power), K16 GND (power), L1 GND (power), L4 VDDIOP0 (power), M1 VDDCORE (power), M3 GND (power), N2 VDDPLL (power), P2 VDDPLL (power), P8 VDDIOP1 (power), R1 NC, R2 GNDANA (power), R4 VDDANA (power), R7 GND (power), T2 GNDPLL (power), T7 GND (power), T13 VDDCORE (power), T15 GND (power), U1 GNDPLL (power), U17 VDDIOP0 (power)

## AT91SAM9260B-QU
designator U?
AT91 ARM Thumb 32-bit Embedded MPU, 210MHz, 32KB ROM, 2x4KB SRAM, EBI, E-MAC, FS USB, 208-Pin PQFP, Industrial Grade (-40°C to 85°C), Pb-Free; DatasheetVersion: revJ, May-2011; PackageVersion: Jul-2005; PackageReference: QFP208; PackageDescription: 208-Pin Plastic Shrink Quad Flat Pack 0.5 mm Pitch; Code_JEDEC: MS-022; ComponentLink1Description: Manufacturer URL; ComponentLink1URL: http://www.atmel.com/; ComponentLink2Description: AT91SAM9260 Datasheet; ComponentLink2URL: http://www.atmel.com/dyn/resources/prod_documents/doc6221.pdf; ComponentLink3Description: AT91SAM9260 Summary; ComponentLink3URL: http://www.atmel.com/dyn/resources/prod_documents/6221s.pdf; ComponentLink4Description: ARM9E-S Reference Manual; ComponentLink4URL: http://www.atmel.com/dyn/resources/prod_documents/doc6178.pdf
footprint QFP208_N (Shrink QFP, 208-Leads, Body 28x28mm, Pitch 0.5mm, IPC Medium Density)
footprint QFP208_L (Shrink QFP, 208-Leads, Body 28x28mm, Pitch 0.5mm, IPC High Density)
footprint QFP208_M (Shrink QFP, 208-Leads, Body 28x28mm, Pitch 0.5mm, IPC Low Density)
part A pins: 1 PA24/TWCK/ETX3 (io), 2 PA25/TCLK0/ERX2 (io), 3 PA26/TIOA0/ERX3 (io), 4 PA27/TIOA1/ERXCK (io), 7 PA28/TIOA2/ECRS (io), 8 PA29/SCK1/ECOL (io), 9 PB0/SPI1_MISO/TIOA3 (io), 10 PB1/SPI1_MOSI/TIOB3 (io), 11 PB2/SPI1_SPCK/TIOA4 (io), 12 PB3/SPI1_NPCS0/TIOA5 (io), 15 PB4/TXD0 (io), 16 PB5/RXD0 (io), 17 PB6/TXD1/TCLK1 (io), 18 PB7/RXD1/TCLK2 (io), 19 PB8/TXD2 (io), 20 PB9/RXD2 (io), 21 PB14/DRXD (io), 22 PB15/DTXD (io), 23 PB16/TK0/TCLK3 (io), 26 PB17/TF0/TCLK4 (io), 27 PB18/TD0/TIOB4 (io), 28 PB19/RD0/TIOB5 (io), 56 PC13/FIQ/NCS6 (io), 57 PC11/NCS2/SPI0_NPCS1 (io), 58 PC10/A25/CFRNW/CTS3 (io), 59 PC14/NCS3/NANDCS/IRQ2 (io), 60 PC9/NCS5/CFCS1/TIOB0 (io), 61 PC8/NCS4/CFCS0/RTS3 (io), 62 PC4/A23/SPI1_NPCS2 (io), 63 PC6/TIOB2/CFCE1 (io), 64 PC7/TIOB1/CFCE2 (io), 67 PC5/A24/SPI1_NPCS1 (io), 127 PC15/NWAIT/IRQ1 (io), 128 PC16/D16/SPI0_NPCS2 (io), 129 PC17/D17/SPI0_NPCS3 (io), 130 PC18/D18/SPI1_NPCS1 (io), 131 PC19/D19/SPI1_NPCS2 (io), 134 PC20/D20/SPI1_NPCS3 (io), 135 PC21/D21/EF100 (io), 136 PC22/D22/TCLK5 (io), 137 PC23/D23 (io), 138 PC24/D24 (io), 139 PC25/D25 (io), 140 PC26/D26 (io), 141 PC27/D27 (io), 142 PC28/D28 (io), 143 PC29/D29 (io), 144 PC30/D30 (io), 145 PC31/D31 (io), 158 PC0/SCK3/AD0 (io), 159 PC1/PCK0/AD1 (io), 161 PB10/TXD3/ISI_D8 (io), 162 PB11/RXD3/ISI_D9 (io), 163 PB20/RK0/ISI_D0 (io), 164 PB21/RF0/ISI_D1 (io), 165 PB22/DSR0/ISI_D2 (io), 166 PB23/DCD0/ISI_D3 (io), 167 PB24/DTR0/ISI_D4 (io), 168 PB25/RI0/ISI_D5 (io), 171 PB26/RTS0/ISI_D6 (io), 172 PB27/CTS0/ISI_D7 (io), 175 PB28/RTS1/ISI_PCK (io), 176 PB29/CTS1/ISI_VSYNC (io), 177 PB30/PCK0/ISI_HSYNC (io), 178 PB31/PCK1 (io), 179 PA0/SPI0_MISO/MCDB0 (io), 180 PA1/SPI0_MOSI/MCCDB (io), 181 PA2/SPI0_SPCK (io), 182 PA3/SPI0_NPCS0/MCDB3 (io), 183 PA4/RTS2/MCDB2 (io), 184 PA5/CTS2/MCDB1 (io), 185 PA6/MCDA0 (io), 186 PA7/MCCDA (io), 189 PA8/MCCK (io), 190 PA9/MCDA1 (io), 191 PA10/MCDA2/ETX2 (io), 192 PA11/MCDA3/ETX3 (io), 193 PA12/ETX0 (io), 194 PA13/ETX1 (io), 195 PA14/ERX0 (io), 196 PA15/ERX1 (io), 197 PA16/ETXEN (io), 198 PA17/ERXDV (io), 201 PA18/ERXER (io), 202 PA19/ETXCK (io), 205 PA20/EMDC (io), 206 PA21/EMDIO (io), 207 PA22/ADTRG/ETXER (io), 208 PA23/TWD/ETX2 (io)
part B pins: 36 NRST (io), 40 BMS (in), 41 OSCSEL (in), 42 TST (in), 45 XOUT32 (out), 46 XIN32 (in), 48 WKUP (in), 49 SHDN (out), 50 HDMA (io), 51 HDPA (io), 54 DDM (io), 55 DDP (io), 68 NCS0 (out), 69 CFOE/NRD (out), 70 CFWE/NWE/NWR0 (out), 71 NANDOE (out), 72 NANDWE (out), 73 A22/NANDCLE (out), 74 A21/NANDALE (out), 75 A20 (out), 76 A19 (out), 79 A18 (out), 80 BA1/A17 (out), 81 BA0/A16 (out), 82 A15 (out), 83 A14 (out), 84 A13 (out), 85 A12 (out), 86 A11 (out), 87 A10 (out), 88 A9 (out), 89 A8 (out), 92 A7 (out), 93 A6 (out), 94 A5 (out), 95 A4 (out), 96 A3 (out), 97 A2 (out), 98 NWR2/NBS2/A1 (out), 99 NBS0/A0 (out), 100 SDA10 (out), 101 CFIOW/NBS3/NWR3 (out), 102 CFIOR/NBS1/NWR1 (out), 103 SDCS/NCS1 (out), 104 CAS (out), 105 RAS (out), 106 D0 (io), 107 D1 (io), 108 D2 (io), 109 D3 (io), 110 D4 (io), 111 D5 (io), 112 D6 (io), 115 SDCK (out), 116 SDWE (out), 117 SDCKE (out), 118 D7 (io), 119 D8 (io), 120 D9 (io), 121 D10 (io), 122 D11 (io), 123 D12 (io), 124 D13 (io), 125 D14 (io), 126 D15 (io), 149 XIN (in), 150 XOUT (out), 154 PLLRCA (in), 157 ADVREF (power)
part C pins: 29 TDO (out), 30 TDI (in), 31 TMS (in), 34 TCK (in), 35 NTRST (in), 37 RTCK (out), 43 JTAGSEL (in)
part D pins: 5 VDDIOP0 (power), 6 GND (power), 13 VDDIOP0 (power), 14 GND (power), 24 VDDIOP0 (power), 25 GND (power), 32 VDDIOP0 (power), 33 GND (power), 38 VDDCORE (power), 39 GND (power), 44 GNDBU (power), 47 VDDBU (power), 52 VDDIOP0 (power), 53 GND (power), 65 VDDIOM (power), 66 GND (power), 77 VDDCORE (power), 78 GND (power), 90 VDDIOM (power), 91 GND (power), 113 GND (power), 114 VDDIOM (power), 132 VDDIOM (power), 133 GND (power), 146 GND (power), 147 VDDCORE (power), 148 VDDPLL (power), 151 GNDPLL (power), 152 NC, 153 GNDPLL (power), 155 VDDPLL (power), 156 GNDANA (power), 160 VDDANA (power), 169 VDDIOP1 (power), 170 GND (power), 173 GND (power), 174 VDDCORE (power), 187 VDDIOP0 (power), 188 GND (power), 199 VDDIOP0 (power), 200 GND (power), 203 VDDCORE (power), 204 GND (power)

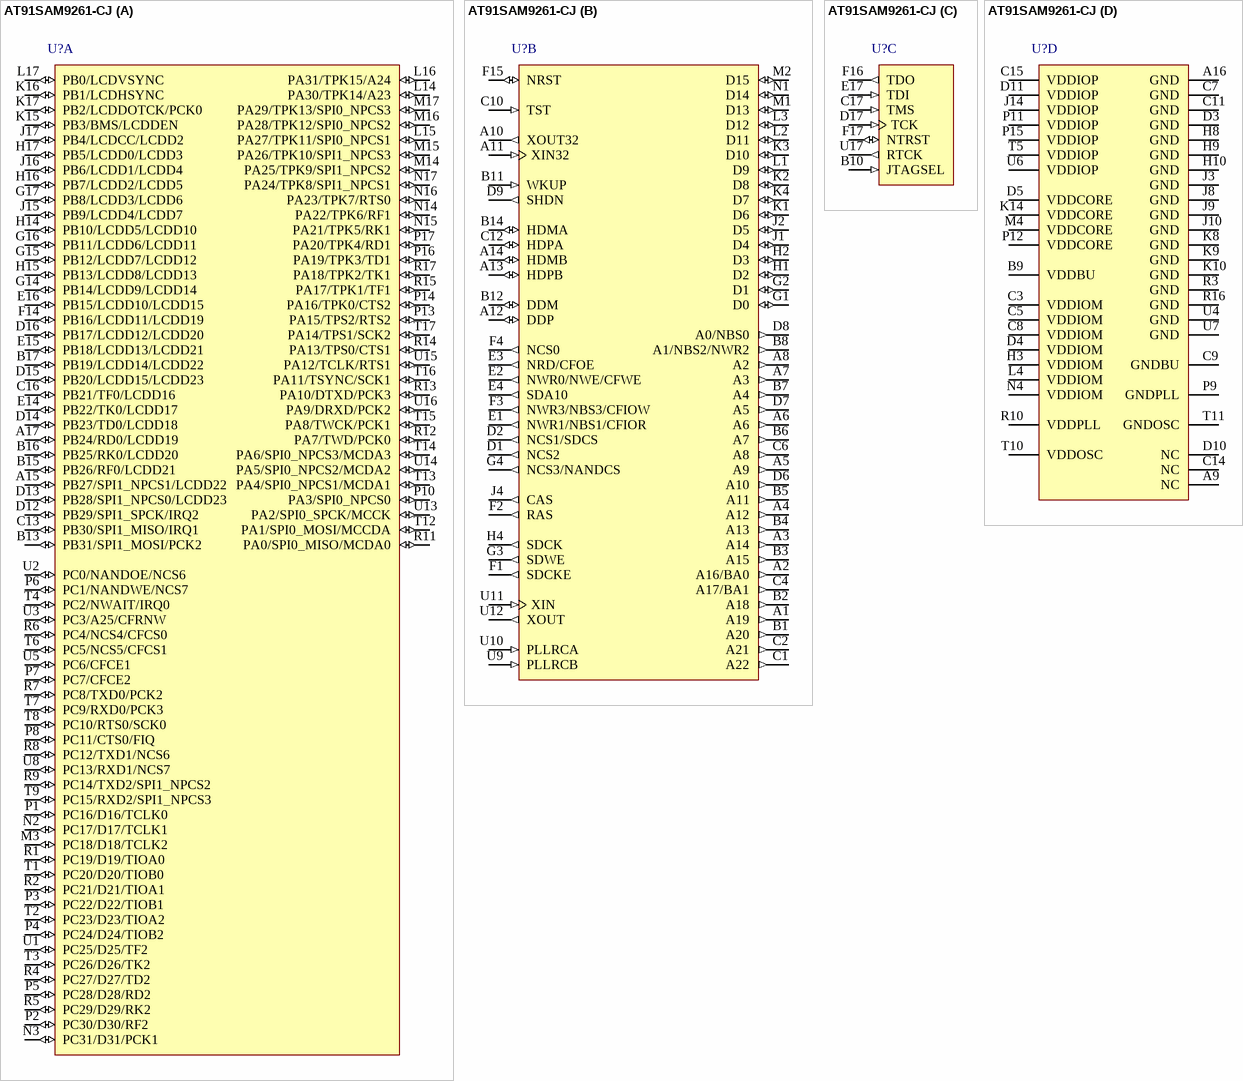
[diagram p46: symbol AT91SAM9261-CJ]

## AT91SAM9261-CJ
designator U?
AT91 ARM Thumb 32-bit Embedded MPU, 190MHz, 1.2V, 160KB SRAM, EBI, FS USB, LCD Controller, 217-Pin LFBGA, Industrial Grade (-40°C to 85°C), Pb-Free; DatasheetVersion: revN, Oct-2011; PackageVersion: 2011; PackageReference: LFBGA217; PackageDescription: 217-Ball Plastic Low Profile Fine-Pitch BGA, 15 x 15 mm Body, 0.8 mm Pitch; Code_JEDEC: MO-205; ComponentLink1Description: Manufacturer URL; ComponentLink1URL: http://www.atmel.com/; ComponentLink2Description: AT91SAM9261 Datasheet; ComponentLink2URL: http://www.atmel.com/dyn/resources/prod_documents/doc6062.pdf; ComponentLink3Description: AT91SAM9261 Summary; ComponentLink3URL: http://www.atmel.com/dyn/resources/prod_documents/6062s.pdf; ComponentLink4Description: ARM926EJ-S Reference Manual; ComponentLink4URL: http://www.atmel.com/dyn/resources/prod_documents/ARM_926EJS_TRM.pdf
footprint LFBGA217 (BGA, 208-Leads, Body 15x15mm, Pitch 0.8mm, Solder Mask Defined Pads)
part A pins: A15 PB27/SPI1_NPCS1/LCDD22 (io), A17 PB24/RD0/LCDD19 (io), B13 PB31/SPI1_MOSI/PCK2 (io), B15 PB26/RF0/LCDD21 (io), B16 PB25/RK0/LCDD20 (io), B17 PB19/LCDD14/LCDD22 (io), C13 PB30/SPI1_MISO/IRQ1 (io), C16 PB21/TF0/LCDD16 (io), D12 PB29/SPI1_SPCK/IRQ2 (io), D13 PB28/SPI1_NPCS0/LCDD23 (io), D14 PB23/TD0/LCDD18 (io), D15 PB20/LCDD15/LCDD23 (io), D16 PB17/LCDD12/LCDD20 (io), E14 PB22/TK0/LCDD17 (io), E15 PB18/LCDD13/LCDD21 (io), E16 PB15/LCDD10/LCDD15 (io), F14 PB16/LCDD11/LCDD19 (io), G14 PB14/LCDD9/LCDD14 (io), G15 PB12/LCDD7/LCDD12 (io), G16 PB11/LCDD6/LCDD11 (io), G17 PB8/LCDD3/LCDD6 (io), H14 PB10/LCDD5/LCDD10 (io), H15 PB13/LCDD8/LCDD13 (io), H16 PB7/LCDD2/LCDD5 (io), H17 PB5/LCDD0/LCDD3 (io), J15 PB9/LCDD4/LCDD7 (io), J16 PB6/LCDD1/LCDD4 (io), J17 PB4/LCDCC/LCDD2 (io), K15 PB3/BMS/LCDDEN (io), K16 PB1/LCDHSYNC (io), K17 PB2/LCDDOTCK/PCK0 (io), L14 PA30/TPK14/A23 (io), L15 PA27/TPK11/SPI0_NPCS1 (io), L16 PA31/TPK15/A24 (io), L17 PB0/LCDVSYNC (io), M3 PC18/D18/TCLK2 (io), M14 PA25/TPK9/SPI1_NPCS2 (io), M15 PA26/TPK10/SPI1_NPCS3 (io), M16 PA28/TPK12/SPI0_NPCS2 (io), M17 PA29/TPK13/SPI0_NPCS3 (io), N2 PC17/D17/TCLK1 (io), N3 PC31/D31/PCK1 (io), N14 PA22/TPK6/RF1 (io), N15 PA21/TPK5/RK1 (io), N16 PA23/TPK7/RTS0 (io), N17 PA24/TPK8/SPI1_NPCS1 (io), P1 PC16/D16/TCLK0 (io), P2 PC30/D30/RF2 (io), P3 PC22/D22/TIOB1 (io), P4 PC24/D24/TIOB2 (io), P5 PC28/D28/RD2 (io), P6 PC1/NANDWE/NCS7 (io), P7 PC7/CFCE2 (io), P8 PC11/CTS0/FIQ (io), P10 PA3/SPI0_NPCS0 (io), P13 PA15/TPS2/RTS2 (io), P14 PA16/TPK0/CTS2 (io), P16 PA19/TPK3/TD1 (io), P17 PA20/TPK4/RD1 (io), R1 PC19/D19/TIOA0 (io), R2 PC21/D21/TIOA1 (io), R4 PC27/D27/TD2 (io), R5 PC29/D29/RK2 (io), R6 PC4/NCS4/CFCS0 (io), R7 PC8/TXD0/PCK2 (io), R8 PC12/TXD1/NCS6 (io), R9 PC14/TXD2/SPI1_NPCS2 (io), R11 PA0/SPI0_MISO/MCDA0 (io), R12 PA7/TWD/PCK0 (io), R13 PA10/DTXD/PCK3 (io), R14 PA13/TPS0/CTS1 (io), R15 PA17/TPK1/TF1 (io), R17 PA18/TPK2/TK1 (io), T1 PC20/D20/TIOB0 (io), T2 PC23/D23/TIOA2 (io), T3 PC26/D26/TK2 (io), T4 PC2/NWAIT/IRQ0 (io), T6 PC5/NCS5/CFCS1 (io), T7 PC9/RXD0/PCK3 (io), T8 PC10/RTS0/SCK0 (io), T9 PC15/RXD2/SPI1_NPCS3 (io), T12 PA1/SPI0_MOSI/MCCDA (io), T13 PA4/SPI0_NPCS1/MCDA1 (io), T14 PA6/SPI0_NPCS3/MCDA3 (io), T15 PA8/TWCK/PCK1 (io), T16 PA11/TSYNC/SCK1 (io), T17 PA14/TPS1/SCK2 (io), U1 PC25/D25/TF2 (io), U2 PC0/NANDOE/NCS6 (io), U3 PC3/A25/CFRNW (io), U5 PC6/CFCE1 (io), U8 PC13/RXD1/NCS7 (io), U13 PA2/SPI0_SPCK/MCCK (io), U14 PA5/SPI0_NPCS2/MCDA2 (io), U15 PA12/TCLK/RTS1 (io), U16 PA9/DRXD/PCK2 (io)
part B pins: A1 A19 (out), A2 A16/BA0 (out), A3 A14 (out), A4 A12 (out), A5 A9 (out), A6 (out), A7 A3 (out), A8 A2 (out), A10 XOUT32 (out), A11 XIN32 (in), A12 DDP (io), A13 HDPB (io), A14 HDMB (io), B1 A20 (out), B2 A18 (out), B3 A15 (out), B4 A13 (out), B5 A11 (out), B6 A7 (out), B7 A4 (out), B8 A1/NBS2/NWR2 (out), B11 WKUP (in), B12 DDM (io), B14 HDMA (io), C1 A22 (out), C2 A21 (out), C4 A17/BA1 (out), C6 A8 (out), C10 TST (in), C12 HDPA (io), D1 NCS2 (out), D2 NCS1/SDCS (out), D6 A10 (out), D7 A5 (out), D8 A0/NBS0 (out), D9 SHDN (out), E1 NWR1/NBS1/CFIOR (out), E2 NWR0/NWE/CFWE (out), E3 NRD/CFOE (out), E4 SDA10 (out), F1 SDCKE (out), F2 RAS (out), F3 NWR3/NBS3/CFIOW (out), F4 NCS0 (out), F15 NRST (io), G1 D0 (io), G2 D1 (io), G3 SDWE (out), G4 NCS3/NANDCS (out), H1 D2 (io), H2 D3 (io), H4 SDCK (out), J1 D4 (io), J2 D5 (io), J4 CAS (out), K1 D6 (io), K2 D8 (io), K3 D10 (io), K4 D7 (io), L1 D9 (io), L2 D11 (io), L3 D12 (io), M1 D13 (io), M2 D15 (io), N1 D14 (io), U9 PLLRCB (in), U10 PLLRCA (in), U11 XIN (in), U12 XOUT (out)
part C pins: B10 JTAGSEL (in), C17 TMS (in), D17 TCK (in), E17 TDI (in), F16 TDO (out), F17 NTRST (io), U17 RTCK (out)
part D pins: A9 NC, A16 GND (power), B9 VDDBU (power), C3 VDDIOM (power), C5 VDDIOM (power), C7 GND (power), C8 VDDIOM (power), C9 GNDBU (power), C11 GND (power), C14 NC, C15 VDDIOP (power), D3 GND (power), D4 VDDIOM (power), D5 VDDCORE (power), D10 NC, D11 VDDIOP (power), H3 VDDIOM (power), H8 GND (power), H9 GND (power), H10 GND (power), J3 GND (power), J8 GND (power), J9 GND (power), J10 GND (power), J14 VDDIOP (power), K8 GND (power), K9 GND (power), K10 GND (power), K14 VDDCORE (power), L4 VDDIOM (power), M4 VDDCORE (power), N4 VDDIOM (power), P9 GNDPLL (power), P11 VDDIOP (power), P12 VDDCORE (power), P15 VDDIOP (power), R3 GND (power), R10 VDDPLL (power), R16 GND (power), T5 VDDIOP (power), T10 VDDOSC (power), T11 GNDOSC (power), U4 GND (power), U6 VDDIOP (power), U7 GND (power)

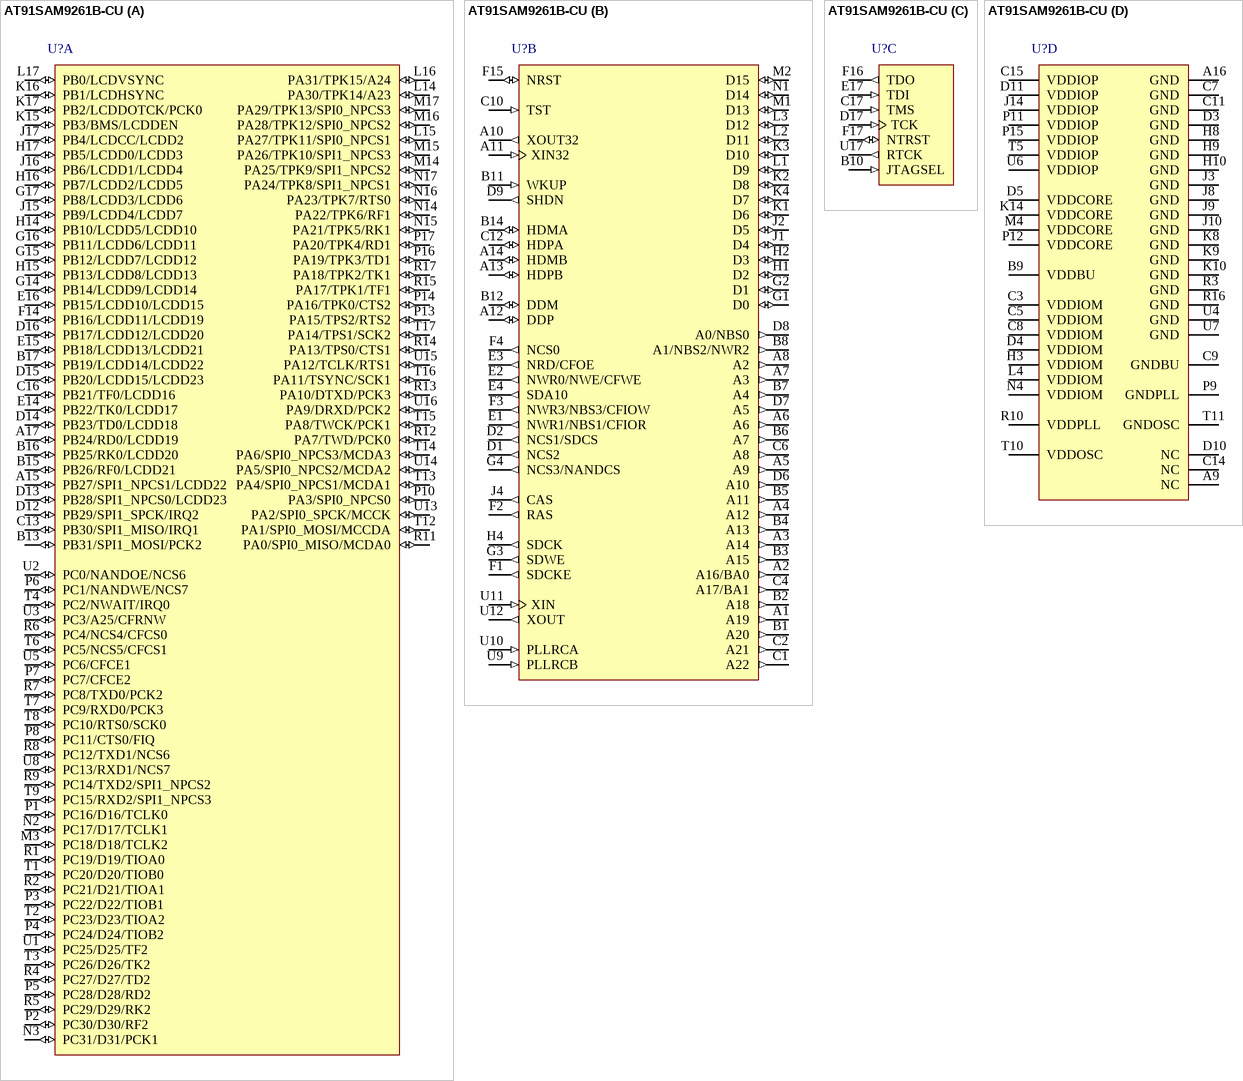
[diagram p47: symbol AT91SAM9261B-CU]

## AT91SAM9261B-CU
designator U?
AT91 ARM Thumb 32-bit Embedded MPU, 190MHz, 1.2V, 160KB SRAM, EBI, FS USB, LCD Controller, 217-Pin LFBGA, Industrial Grade (-40°C to 85°C), Pb-Free; DatasheetVersion: revM, Mar-2009; PackageVersion: 2011; PackageReference: LFBGA217; PackageDescription: 217-Ball Plastic Low Profile Fine-Pitch BGA, 15 x 15 mm Body, 0.8 mm Pitch; Code_JEDEC: MO-205; ComponentLink1Description: Manufacturer URL; ComponentLink1URL: http://www.atmel.com/; ComponentLink2Description: AT91SAM9261 Datasheet; ComponentLink2URL: http://www.atmel.com/dyn/resources/prod_documents/doc6062.pdf; ComponentLink3Description: AT91SAM9261 Summary; ComponentLink3URL: http://www.atmel.com/dyn/resources/prod_documents/6062s.pdf; ComponentLink4Description: ARM926EJ-S Reference Manual; ComponentLink4URL: http://www.atmel.com/dyn/resources/prod_documents/ARM_926EJS_TRM.pdf
footprint LFBGA217 (BGA, 208-Leads, Body 15x15mm, Pitch 0.8mm, Solder Mask Defined Pads)
part A pins: A15 PB27/SPI1_NPCS1/LCDD22 (io), A17 PB24/RD0/LCDD19 (io), B13 PB31/SPI1_MOSI/PCK2 (io), B15 PB26/RF0/LCDD21 (io), B16 PB25/RK0/LCDD20 (io), B17 PB19/LCDD14/LCDD22 (io), C13 PB30/SPI1_MISO/IRQ1 (io), C16 PB21/TF0/LCDD16 (io), D12 PB29/SPI1_SPCK/IRQ2 (io), D13 PB28/SPI1_NPCS0/LCDD23 (io), D14 PB23/TD0/LCDD18 (io), D15 PB20/LCDD15/LCDD23 (io), D16 PB17/LCDD12/LCDD20 (io), E14 PB22/TK0/LCDD17 (io), E15 PB18/LCDD13/LCDD21 (io), E16 PB15/LCDD10/LCDD15 (io), F14 PB16/LCDD11/LCDD19 (io), G14 PB14/LCDD9/LCDD14 (io), G15 PB12/LCDD7/LCDD12 (io), G16 PB11/LCDD6/LCDD11 (io), G17 PB8/LCDD3/LCDD6 (io), H14 PB10/LCDD5/LCDD10 (io), H15 PB13/LCDD8/LCDD13 (io), H16 PB7/LCDD2/LCDD5 (io), H17 PB5/LCDD0/LCDD3 (io), J15 PB9/LCDD4/LCDD7 (io), J16 PB6/LCDD1/LCDD4 (io), J17 PB4/LCDCC/LCDD2 (io), K15 PB3/BMS/LCDDEN (io), K16 PB1/LCDHSYNC (io), K17 PB2/LCDDOTCK/PCK0 (io), L14 PA30/TPK14/A23 (io), L15 PA27/TPK11/SPI0_NPCS1 (io), L16 PA31/TPK15/A24 (io), L17 PB0/LCDVSYNC (io), M3 PC18/D18/TCLK2 (io), M14 PA25/TPK9/SPI1_NPCS2 (io), M15 PA26/TPK10/SPI1_NPCS3 (io), M16 PA28/TPK12/SPI0_NPCS2 (io), M17 PA29/TPK13/SPI0_NPCS3 (io), N2 PC17/D17/TCLK1 (io), N3 PC31/D31/PCK1 (io), N14 PA22/TPK6/RF1 (io), N15 PA21/TPK5/RK1 (io), N16 PA23/TPK7/RTS0 (io), N17 PA24/TPK8/SPI1_NPCS1 (io), P1 PC16/D16/TCLK0 (io), P2 PC30/D30/RF2 (io), P3 PC22/D22/TIOB1 (io), P4 PC24/D24/TIOB2 (io), P5 PC28/D28/RD2 (io), P6 PC1/NANDWE/NCS7 (io), P7 PC7/CFCE2 (io), P8 PC11/CTS0/FIQ (io), P10 PA3/SPI0_NPCS0 (io), P13 PA15/TPS2/RTS2 (io), P14 PA16/TPK0/CTS2 (io), P16 PA19/TPK3/TD1 (io), P17 PA20/TPK4/RD1 (io), R1 PC19/D19/TIOA0 (io), R2 PC21/D21/TIOA1 (io), R4 PC27/D27/TD2 (io), R5 PC29/D29/RK2 (io), R6 PC4/NCS4/CFCS0 (io), R7 PC8/TXD0/PCK2 (io), R8 PC12/TXD1/NCS6 (io), R9 PC14/TXD2/SPI1_NPCS2 (io), R11 PA0/SPI0_MISO/MCDA0 (io), R12 PA7/TWD/PCK0 (io), R13 PA10/DTXD/PCK3 (io), R14 PA13/TPS0/CTS1 (io), R15 PA17/TPK1/TF1 (io), R17 PA18/TPK2/TK1 (io), T1 PC20/D20/TIOB0 (io), T2 PC23/D23/TIOA2 (io), T3 PC26/D26/TK2 (io), T4 PC2/NWAIT/IRQ0 (io), T6 PC5/NCS5/CFCS1 (io), T7 PC9/RXD0/PCK3 (io), T8 PC10/RTS0/SCK0 (io), T9 PC15/RXD2/SPI1_NPCS3 (io), T12 PA1/SPI0_MOSI/MCCDA (io), T13 PA4/SPI0_NPCS1/MCDA1 (io), T14 PA6/SPI0_NPCS3/MCDA3 (io), T15 PA8/TWCK/PCK1 (io), T16 PA11/TSYNC/SCK1 (io), T17 PA14/TPS1/SCK2 (io), U1 PC25/D25/TF2 (io), U2 PC0/NANDOE/NCS6 (io), U3 PC3/A25/CFRNW (io), U5 PC6/CFCE1 (io), U8 PC13/RXD1/NCS7 (io), U13 PA2/SPI0_SPCK/MCCK (io), U14 PA5/SPI0_NPCS2/MCDA2 (io), U15 PA12/TCLK/RTS1 (io), U16 PA9/DRXD/PCK2 (io)
part B pins: A1 A19 (out), A2 A16/BA0 (out), A3 A14 (out), A4 A12 (out), A5 A9 (out), A6 (out), A7 A3 (out), A8 A2 (out), A10 XOUT32 (out), A11 XIN32 (in), A12 DDP (io), A13 HDPB (io), A14 HDMB (io), B1 A20 (out), B2 A18 (out), B3 A15 (out), B4 A13 (out), B5 A11 (out), B6 A7 (out), B7 A4 (out), B8 A1/NBS2/NWR2 (out), B11 WKUP (in), B12 DDM (io), B14 HDMA (io), C1 A22 (out), C2 A21 (out), C4 A17/BA1 (out), C6 A8 (out), C10 TST (in), C12 HDPA (io), D1 NCS2 (out), D2 NCS1/SDCS (out), D6 A10 (out), D7 A5 (out), D8 A0/NBS0 (out), D9 SHDN (out), E1 NWR1/NBS1/CFIOR (out), E2 NWR0/NWE/CFWE (out), E3 NRD/CFOE (out), E4 SDA10 (out), F1 SDCKE (out), F2 RAS (out), F3 NWR3/NBS3/CFIOW (out), F4 NCS0 (out), F15 NRST (io), G1 D0 (io), G2 D1 (io), G3 SDWE (out), G4 NCS3/NANDCS (out), H1 D2 (io), H2 D3 (io), H4 SDCK (out), J1 D4 (io), J2 D5 (io), J4 CAS (out), K1 D6 (io), K2 D8 (io), K3 D10 (io), K4 D7 (io), L1 D9 (io), L2 D11 (io), L3 D12 (io), M1 D13 (io), M2 D15 (io), N1 D14 (io), U9 PLLRCB (in), U10 PLLRCA (in), U11 XIN (in), U12 XOUT (out)
part C pins: B10 JTAGSEL (in), C17 TMS (in), D17 TCK (in), E17 TDI (in), F16 TDO (out), F17 NTRST (io), U17 RTCK (out)
part D pins: A9 NC, A16 GND (power), B9 VDDBU (power), C3 VDDIOM (power), C5 VDDIOM (power), C7 GND (power), C8 VDDIOM (power), C9 GNDBU (power), C11 GND (power), C14 NC, C15 VDDIOP (power), D3 GND (power), D4 VDDIOM (power), D5 VDDCORE (power), D10 NC, D11 VDDIOP (power), H3 VDDIOM (power), H8 GND (power), H9 GND (power), H10 GND (power), J3 GND (power), J8 GND (power), J9 GND (power), J10 GND (power), J14 VDDIOP (power), K8 GND (power), K9 GND (power), K10 GND (power), K14 VDDCORE (power), L4 VDDIOM (power), M4 VDDCORE (power), N4 VDDIOM (power), P9 GNDPLL (power), P11 VDDIOP (power), P12 VDDCORE (power), P15 VDDIOP (power), R3 GND (power), R10 VDDPLL (power), R16 GND (power), T5 VDDIOP (power), T10 VDDOSC (power), T11 GNDOSC (power), U4 GND (power), U6 VDDIOP (power), U7 GND (power)

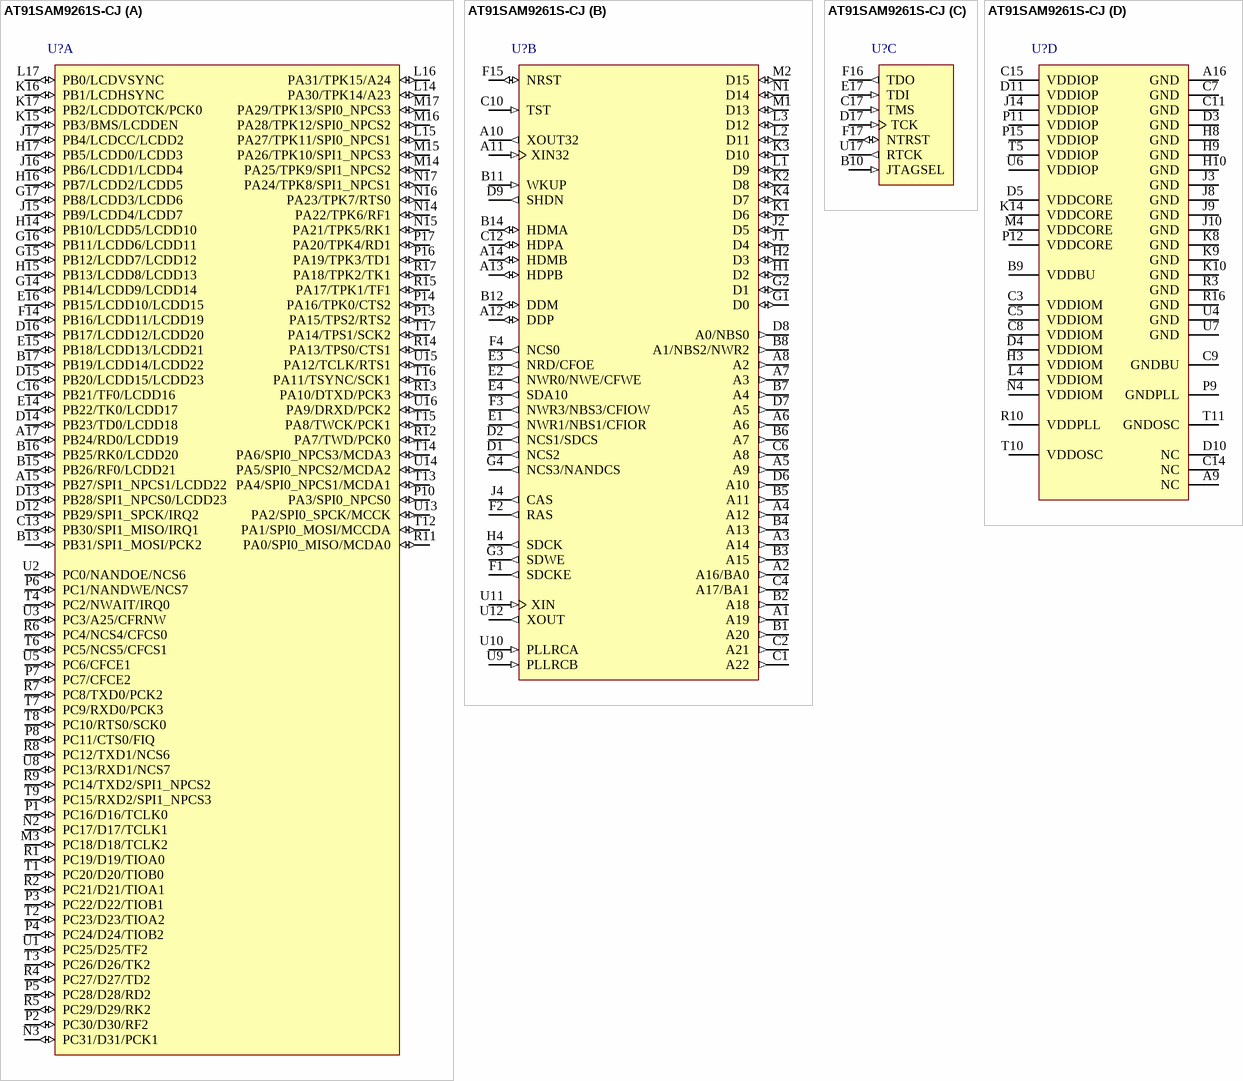
[diagram p48: symbol AT91SAM9261S-CJ]

## AT91SAM9261S-CJ
designator U?
AT91 ARM Thumb 32-bit Microcontroller, 32KB ROM, 16KB SRAM, EBI, FS USB, LCD Controller, 217-Pin LFBGA, Industrial Grade (-40°C to 85°C), Pb-Free; DatasheetVersion: revE, Sep-2009; PackageVersion: 2011; PackageReference: LFBGA217; PackageDescription: 217-Ball Plastic Low Profile Fine-Pitch BGA, 15 x 15 mm Body, 0.8 mm Pitch; Code_JEDEC: MO-205; ComponentLink1Description: Manufacturer URL; ComponentLink1URL: http://www.atmel.com/; ComponentLink2Description: AT91SAM9261S Datasheet; ComponentLink2URL: http://www.atmel.com/dyn/resources/prod_documents/doc6242.pdf; ComponentLink3Description: AT91SAM9261S Summary; ComponentLink3URL: http://www.atmel.com/dyn/resources/prod_documents/6242s.pdf; ComponentLink4Description: ARM926EJ-S Reference Manual; ComponentLink4URL: http://www.atmel.com/dyn/resources/prod_documents/ARM_926EJS_TRM.pdf
footprint LFBGA217 (BGA, 208-Leads, Body 15x15mm, Pitch 0.8mm, Solder Mask Defined Pads)
part A pins: A15 PB27/SPI1_NPCS1/LCDD22 (io), A17 PB24/RD0/LCDD19 (io), B13 PB31/SPI1_MOSI/PCK2 (io), B15 PB26/RF0/LCDD21 (io), B16 PB25/RK0/LCDD20 (io), B17 PB19/LCDD14/LCDD22 (io), C13 PB30/SPI1_MISO/IRQ1 (io), C16 PB21/TF0/LCDD16 (io), D12 PB29/SPI1_SPCK/IRQ2 (io), D13 PB28/SPI1_NPCS0/LCDD23 (io), D14 PB23/TD0/LCDD18 (io), D15 PB20/LCDD15/LCDD23 (io), D16 PB17/LCDD12/LCDD20 (io), E14 PB22/TK0/LCDD17 (io), E15 PB18/LCDD13/LCDD21 (io), E16 PB15/LCDD10/LCDD15 (io), F14 PB16/LCDD11/LCDD19 (io), G14 PB14/LCDD9/LCDD14 (io), G15 PB12/LCDD7/LCDD12 (io), G16 PB11/LCDD6/LCDD11 (io), G17 PB8/LCDD3/LCDD6 (io), H14 PB10/LCDD5/LCDD10 (io), H15 PB13/LCDD8/LCDD13 (io), H16 PB7/LCDD2/LCDD5 (io), H17 PB5/LCDD0/LCDD3 (io), J15 PB9/LCDD4/LCDD7 (io), J16 PB6/LCDD1/LCDD4 (io), J17 PB4/LCDCC/LCDD2 (io), K15 PB3/BMS/LCDDEN (io), K16 PB1/LCDHSYNC (io), K17 PB2/LCDDOTCK/PCK0 (io), L14 PA30/TPK14/A23 (io), L15 PA27/TPK11/SPI0_NPCS1 (io), L16 PA31/TPK15/A24 (io), L17 PB0/LCDVSYNC (io), M3 PC18/D18/TCLK2 (io), M14 PA25/TPK9/SPI1_NPCS2 (io), M15 PA26/TPK10/SPI1_NPCS3 (io), M16 PA28/TPK12/SPI0_NPCS2 (io), M17 PA29/TPK13/SPI0_NPCS3 (io), N2 PC17/D17/TCLK1 (io), N3 PC31/D31/PCK1 (io), N14 PA22/TPK6/RF1 (io), N15 PA21/TPK5/RK1 (io), N16 PA23/TPK7/RTS0 (io), N17 PA24/TPK8/SPI1_NPCS1 (io), P1 PC16/D16/TCLK0 (io), P2 PC30/D30/RF2 (io), P3 PC22/D22/TIOB1 (io), P4 PC24/D24/TIOB2 (io), P5 PC28/D28/RD2 (io), P6 PC1/NANDWE/NCS7 (io), P7 PC7/CFCE2 (io), P8 PC11/CTS0/FIQ (io), P10 PA3/SPI0_NPCS0 (io), P13 PA15/TPS2/RTS2 (io), P14 PA16/TPK0/CTS2 (io), P16 PA19/TPK3/TD1 (io), P17 PA20/TPK4/RD1 (io), R1 PC19/D19/TIOA0 (io), R2 PC21/D21/TIOA1 (io), R4 PC27/D27/TD2 (io), R5 PC29/D29/RK2 (io), R6 PC4/NCS4/CFCS0 (io), R7 PC8/TXD0/PCK2 (io), R8 PC12/TXD1/NCS6 (io), R9 PC14/TXD2/SPI1_NPCS2 (io), R11 PA0/SPI0_MISO/MCDA0 (io), R12 PA7/TWD/PCK0 (io), R13 PA10/DTXD/PCK3 (io), R14 PA13/TPS0/CTS1 (io), R15 PA17/TPK1/TF1 (io), R17 PA18/TPK2/TK1 (io), T1 PC20/D20/TIOB0 (io), T2 PC23/D23/TIOA2 (io), T3 PC26/D26/TK2 (io), T4 PC2/NWAIT/IRQ0 (io), T6 PC5/NCS5/CFCS1 (io), T7 PC9/RXD0/PCK3 (io), T8 PC10/RTS0/SCK0 (io), T9 PC15/RXD2/SPI1_NPCS3 (io), T12 PA1/SPI0_MOSI/MCCDA (io), T13 PA4/SPI0_NPCS1/MCDA1 (io), T14 PA6/SPI0_NPCS3/MCDA3 (io), T15 PA8/TWCK/PCK1 (io), T16 PA11/TSYNC/SCK1 (io), T17 PA14/TPS1/SCK2 (io), U1 PC25/D25/TF2 (io), U2 PC0/NANDOE/NCS6 (io), U3 PC3/A25/CFRNW (io), U5 PC6/CFCE1 (io), U8 PC13/RXD1/NCS7 (io), U13 PA2/SPI0_SPCK/MCCK (io), U14 PA5/SPI0_NPCS2/MCDA2 (io), U15 PA12/TCLK/RTS1 (io), U16 PA9/DRXD/PCK2 (io)
part B pins: A1 A19 (out), A2 A16/BA0 (out), A3 A14 (out), A4 A12 (out), A5 A9 (out), A6 (out), A7 A3 (out), A8 A2 (out), A10 XOUT32 (out), A11 XIN32 (in), A12 DDP (io), A13 HDPB (io), A14 HDMB (io), B1 A20 (out), B2 A18 (out), B3 A15 (out), B4 A13 (out), B5 A11 (out), B6 A7 (out), B7 A4 (out), B8 A1/NBS2/NWR2 (out), B11 WKUP (in), B12 DDM (io), B14 HDMA (io), C1 A22 (out), C2 A21 (out), C4 A17/BA1 (out), C6 A8 (out), C10 TST (in), C12 HDPA (io), D1 NCS2 (out), D2 NCS1/SDCS (out), D6 A10 (out), D7 A5 (out), D8 A0/NBS0 (out), D9 SHDN (out), E1 NWR1/NBS1/CFIOR (out), E2 NWR0/NWE/CFWE (out), E3 NRD/CFOE (out), E4 SDA10 (out), F1 SDCKE (out), F2 RAS (out), F3 NWR3/NBS3/CFIOW (out), F4 NCS0 (out), F15 NRST (io), G1 D0 (io), G2 D1 (io), G3 SDWE (out), G4 NCS3/NANDCS (out), H1 D2 (io), H2 D3 (io), H4 SDCK (out), J1 D4 (io), J2 D5 (io), J4 CAS (out), K1 D6 (io), K2 D8 (io), K3 D10 (io), K4 D7 (io), L1 D9 (io), L2 D11 (io), L3 D12 (io), M1 D13 (io), M2 D15 (io), N1 D14 (io), U9 PLLRCB (in), U10 PLLRCA (in), U11 XIN (in), U12 XOUT (out)
part C pins: B10 JTAGSEL (in), C17 TMS (in), D17 TCK (in), E17 TDI (in), F16 TDO (out), F17 NTRST (io), U17 RTCK (out)
part D pins: A9 NC, A16 GND (power), B9 VDDBU (power), C3 VDDIOM (power), C5 VDDIOM (power), C7 GND (power), C8 VDDIOM (power), C9 GNDBU (power), C11 GND (power), C14 NC, C15 VDDIOP (power), D3 GND (power), D4 VDDIOM (power), D5 VDDCORE (power), D10 NC, D11 VDDIOP (power), H3 VDDIOM (power), H8 GND (power), H9 GND (power), H10 GND (power), J3 GND (power), J8 GND (power), J9 GND (power), J10 GND (power), J14 VDDIOP (power), K8 GND (power), K9 GND (power), K10 GND (power), K14 VDDCORE (power), L4 VDDIOM (power), M4 VDDCORE (power), N4 VDDIOM (power), P9 GNDPLL (power), P11 VDDIOP (power), P12 VDDCORE (power), P15 VDDIOP (power), R3 GND (power), R10 VDDPLL (power), R16 GND (power), T5 VDDIOP (power), T10 VDDOSC (power), T11 GNDOSC (power), U4 GND (power), U6 VDDIOP (power), U7 GND (power)

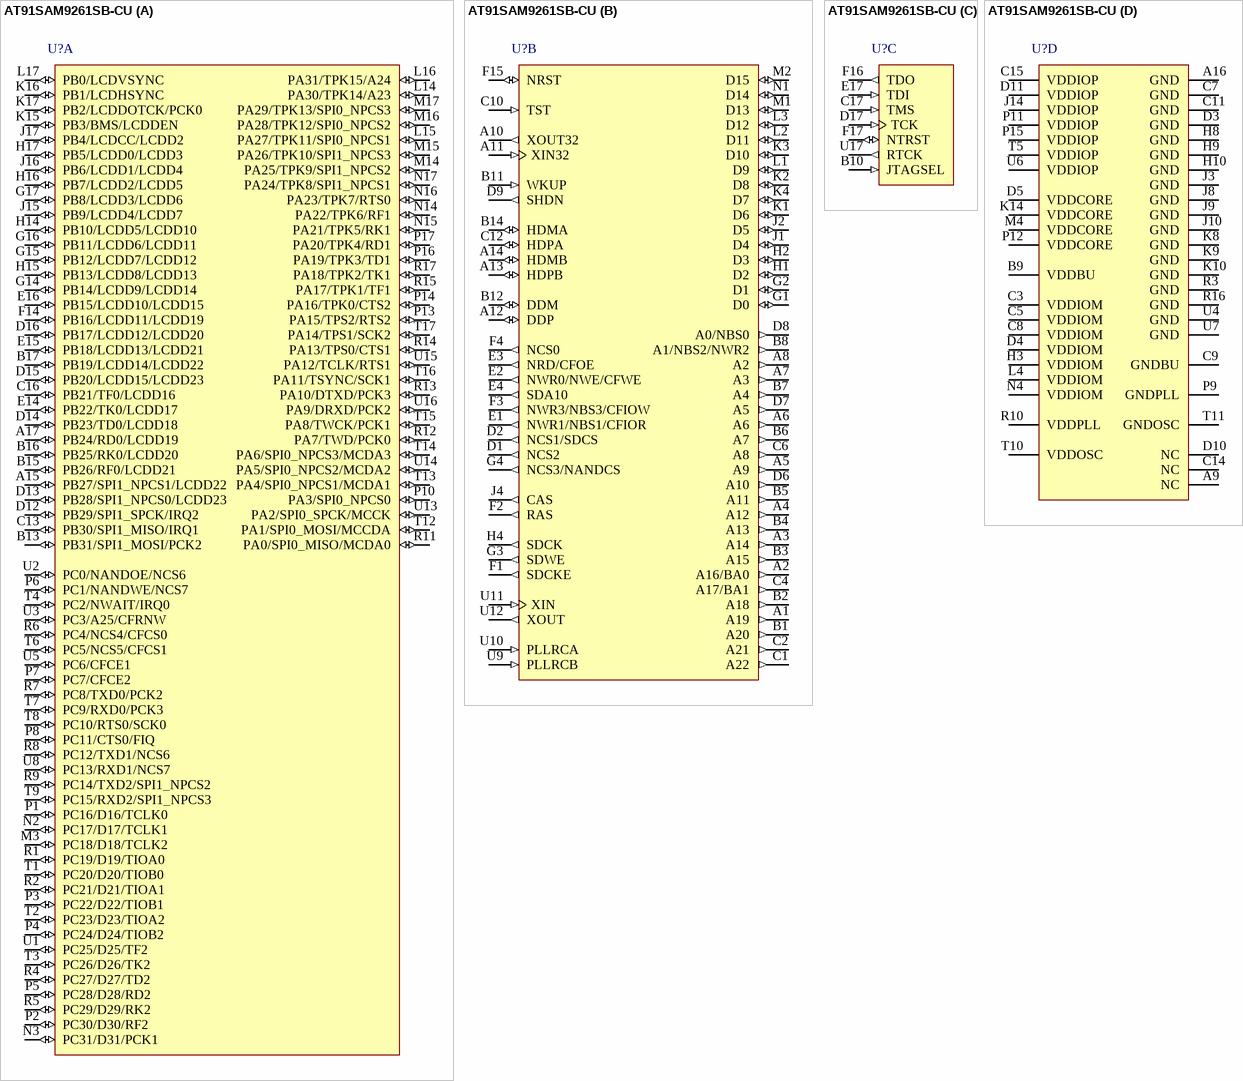
[diagram p49: symbol AT91SAM9261SB-CU]

## AT91SAM9261SB-CU
designator U?
AT91 ARM Thumb 32-bit Microcontroller, 32KB ROM, 16KB SRAM, EBI, FS USB, LCD Controller, 217-Pin LFBGA, Industrial Grade (-40°C to 85°C), Pb-Free; DatasheetVersion: revE, Sep-2009; PackageVersion: 2011; PackageReference: LFBGA217; PackageDescription: 217-Ball Plastic Low Profile Fine-Pitch BGA, 15 x 15 mm Body, 0.8 mm Pitch; Code_JEDEC: MO-205; ComponentLink1Description: Manufacturer URL; ComponentLink1URL: http://www.atmel.com/; ComponentLink2Description: AT91SAM9261S Datasheet; ComponentLink2URL: http://www.atmel.com/dyn/resources/prod_documents/doc6242.pdf; ComponentLink3Description: AT91SAM9261S Summary; ComponentLink3URL: http://www.atmel.com/dyn/resources/prod_documents/6242s.pdf; ComponentLink4Description: ARM926EJ-S Reference Manual; ComponentLink4URL: http://www.atmel.com/dyn/resources/prod_documents/ARM_926EJS_TRM.pdf
footprint LFBGA217 (BGA, 208-Leads, Body 15x15mm, Pitch 0.8mm, Solder Mask Defined Pads)
part A pins: A15 PB27/SPI1_NPCS1/LCDD22 (io), A17 PB24/RD0/LCDD19 (io), B13 PB31/SPI1_MOSI/PCK2 (io), B15 PB26/RF0/LCDD21 (io), B16 PB25/RK0/LCDD20 (io), B17 PB19/LCDD14/LCDD22 (io), C13 PB30/SPI1_MISO/IRQ1 (io), C16 PB21/TF0/LCDD16 (io), D12 PB29/SPI1_SPCK/IRQ2 (io), D13 PB28/SPI1_NPCS0/LCDD23 (io), D14 PB23/TD0/LCDD18 (io), D15 PB20/LCDD15/LCDD23 (io), D16 PB17/LCDD12/LCDD20 (io), E14 PB22/TK0/LCDD17 (io), E15 PB18/LCDD13/LCDD21 (io), E16 PB15/LCDD10/LCDD15 (io), F14 PB16/LCDD11/LCDD19 (io), G14 PB14/LCDD9/LCDD14 (io), G15 PB12/LCDD7/LCDD12 (io), G16 PB11/LCDD6/LCDD11 (io), G17 PB8/LCDD3/LCDD6 (io), H14 PB10/LCDD5/LCDD10 (io), H15 PB13/LCDD8/LCDD13 (io), H16 PB7/LCDD2/LCDD5 (io), H17 PB5/LCDD0/LCDD3 (io), J15 PB9/LCDD4/LCDD7 (io), J16 PB6/LCDD1/LCDD4 (io), J17 PB4/LCDCC/LCDD2 (io), K15 PB3/BMS/LCDDEN (io), K16 PB1/LCDHSYNC (io), K17 PB2/LCDDOTCK/PCK0 (io), L14 PA30/TPK14/A23 (io), L15 PA27/TPK11/SPI0_NPCS1 (io), L16 PA31/TPK15/A24 (io), L17 PB0/LCDVSYNC (io), M3 PC18/D18/TCLK2 (io), M14 PA25/TPK9/SPI1_NPCS2 (io), M15 PA26/TPK10/SPI1_NPCS3 (io), M16 PA28/TPK12/SPI0_NPCS2 (io), M17 PA29/TPK13/SPI0_NPCS3 (io), N2 PC17/D17/TCLK1 (io), N3 PC31/D31/PCK1 (io), N14 PA22/TPK6/RF1 (io), N15 PA21/TPK5/RK1 (io), N16 PA23/TPK7/RTS0 (io), N17 PA24/TPK8/SPI1_NPCS1 (io), P1 PC16/D16/TCLK0 (io), P2 PC30/D30/RF2 (io), P3 PC22/D22/TIOB1 (io), P4 PC24/D24/TIOB2 (io), P5 PC28/D28/RD2 (io), P6 PC1/NANDWE/NCS7 (io), P7 PC7/CFCE2 (io), P8 PC11/CTS0/FIQ (io), P10 PA3/SPI0_NPCS0 (io), P13 PA15/TPS2/RTS2 (io), P14 PA16/TPK0/CTS2 (io), P16 PA19/TPK3/TD1 (io), P17 PA20/TPK4/RD1 (io), R1 PC19/D19/TIOA0 (io), R2 PC21/D21/TIOA1 (io), R4 PC27/D27/TD2 (io), R5 PC29/D29/RK2 (io), R6 PC4/NCS4/CFCS0 (io), R7 PC8/TXD0/PCK2 (io), R8 PC12/TXD1/NCS6 (io), R9 PC14/TXD2/SPI1_NPCS2 (io), R11 PA0/SPI0_MISO/MCDA0 (io), R12 PA7/TWD/PCK0 (io), R13 PA10/DTXD/PCK3 (io), R14 PA13/TPS0/CTS1 (io), R15 PA17/TPK1/TF1 (io), R17 PA18/TPK2/TK1 (io), T1 PC20/D20/TIOB0 (io), T2 PC23/D23/TIOA2 (io), T3 PC26/D26/TK2 (io), T4 PC2/NWAIT/IRQ0 (io), T6 PC5/NCS5/CFCS1 (io), T7 PC9/RXD0/PCK3 (io), T8 PC10/RTS0/SCK0 (io), T9 PC15/RXD2/SPI1_NPCS3 (io), T12 PA1/SPI0_MOSI/MCCDA (io), T13 PA4/SPI0_NPCS1/MCDA1 (io), T14 PA6/SPI0_NPCS3/MCDA3 (io), T15 PA8/TWCK/PCK1 (io), T16 PA11/TSYNC/SCK1 (io), T17 PA14/TPS1/SCK2 (io), U1 PC25/D25/TF2 (io), U2 PC0/NANDOE/NCS6 (io), U3 PC3/A25/CFRNW (io), U5 PC6/CFCE1 (io), U8 PC13/RXD1/NCS7 (io), U13 PA2/SPI0_SPCK/MCCK (io), U14 PA5/SPI0_NPCS2/MCDA2 (io), U15 PA12/TCLK/RTS1 (io), U16 PA9/DRXD/PCK2 (io)
part B pins: A1 A19 (out), A2 A16/BA0 (out), A3 A14 (out), A4 A12 (out), A5 A9 (out), A6 (out), A7 A3 (out), A8 A2 (out), A10 XOUT32 (out), A11 XIN32 (in), A12 DDP (io), A13 HDPB (io), A14 HDMB (io), B1 A20 (out), B2 A18 (out), B3 A15 (out), B4 A13 (out), B5 A11 (out), B6 A7 (out), B7 A4 (out), B8 A1/NBS2/NWR2 (out), B11 WKUP (in), B12 DDM (io), B14 HDMA (io), C1 A22 (out), C2 A21 (out), C4 A17/BA1 (out), C6 A8 (out), C10 TST (in), C12 HDPA (io), D1 NCS2 (out), D2 NCS1/SDCS (out), D6 A10 (out), D7 A5 (out), D8 A0/NBS0 (out), D9 SHDN (out), E1 NWR1/NBS1/CFIOR (out), E2 NWR0/NWE/CFWE (out), E3 NRD/CFOE (out), E4 SDA10 (out), F1 SDCKE (out), F2 RAS (out), F3 NWR3/NBS3/CFIOW (out), F4 NCS0 (out), F15 NRST (io), G1 D0 (io), G2 D1 (io), G3 SDWE (out), G4 NCS3/NANDCS (out), H1 D2 (io), H2 D3 (io), H4 SDCK (out), J1 D4 (io), J2 D5 (io), J4 CAS (out), K1 D6 (io), K2 D8 (io), K3 D10 (io), K4 D7 (io), L1 D9 (io), L2 D11 (io), L3 D12 (io), M1 D13 (io), M2 D15 (io), N1 D14 (io), U9 PLLRCB (in), U10 PLLRCA (in), U11 XIN (in), U12 XOUT (out)
part C pins: B10 JTAGSEL (in), C17 TMS (in), D17 TCK (in), E17 TDI (in), F16 TDO (out), F17 NTRST (io), U17 RTCK (out)
part D pins: A9 NC, A16 GND (power), B9 VDDBU (power), C3 VDDIOM (power), C5 VDDIOM (power), C7 GND (power), C8 VDDIOM (power), C9 GNDBU (power), C11 GND (power), C14 NC, C15 VDDIOP (power), D3 GND (power), D4 VDDIOM (power), D5 VDDCORE (power), D10 NC, D11 VDDIOP (power), H3 VDDIOM (power), H8 GND (power), H9 GND (power), H10 GND (power), J3 GND (power), J8 GND (power), J9 GND (power), J10 GND (power), J14 VDDIOP (power), K8 GND (power), K9 GND (power), K10 GND (power), K14 VDDCORE (power), L4 VDDIOM (power), M4 VDDCORE (power), N4 VDDIOM (power), P9 GNDPLL (power), P11 VDDIOP (power), P12 VDDCORE (power), P15 VDDIOP (power), R3 GND (power), R10 VDDPLL (power), R16 GND (power), T5 VDDIOP (power), T10 VDDOSC (power), T11 GNDOSC (power), U4 GND (power), U6 VDDIOP (power), U7 GND (power)

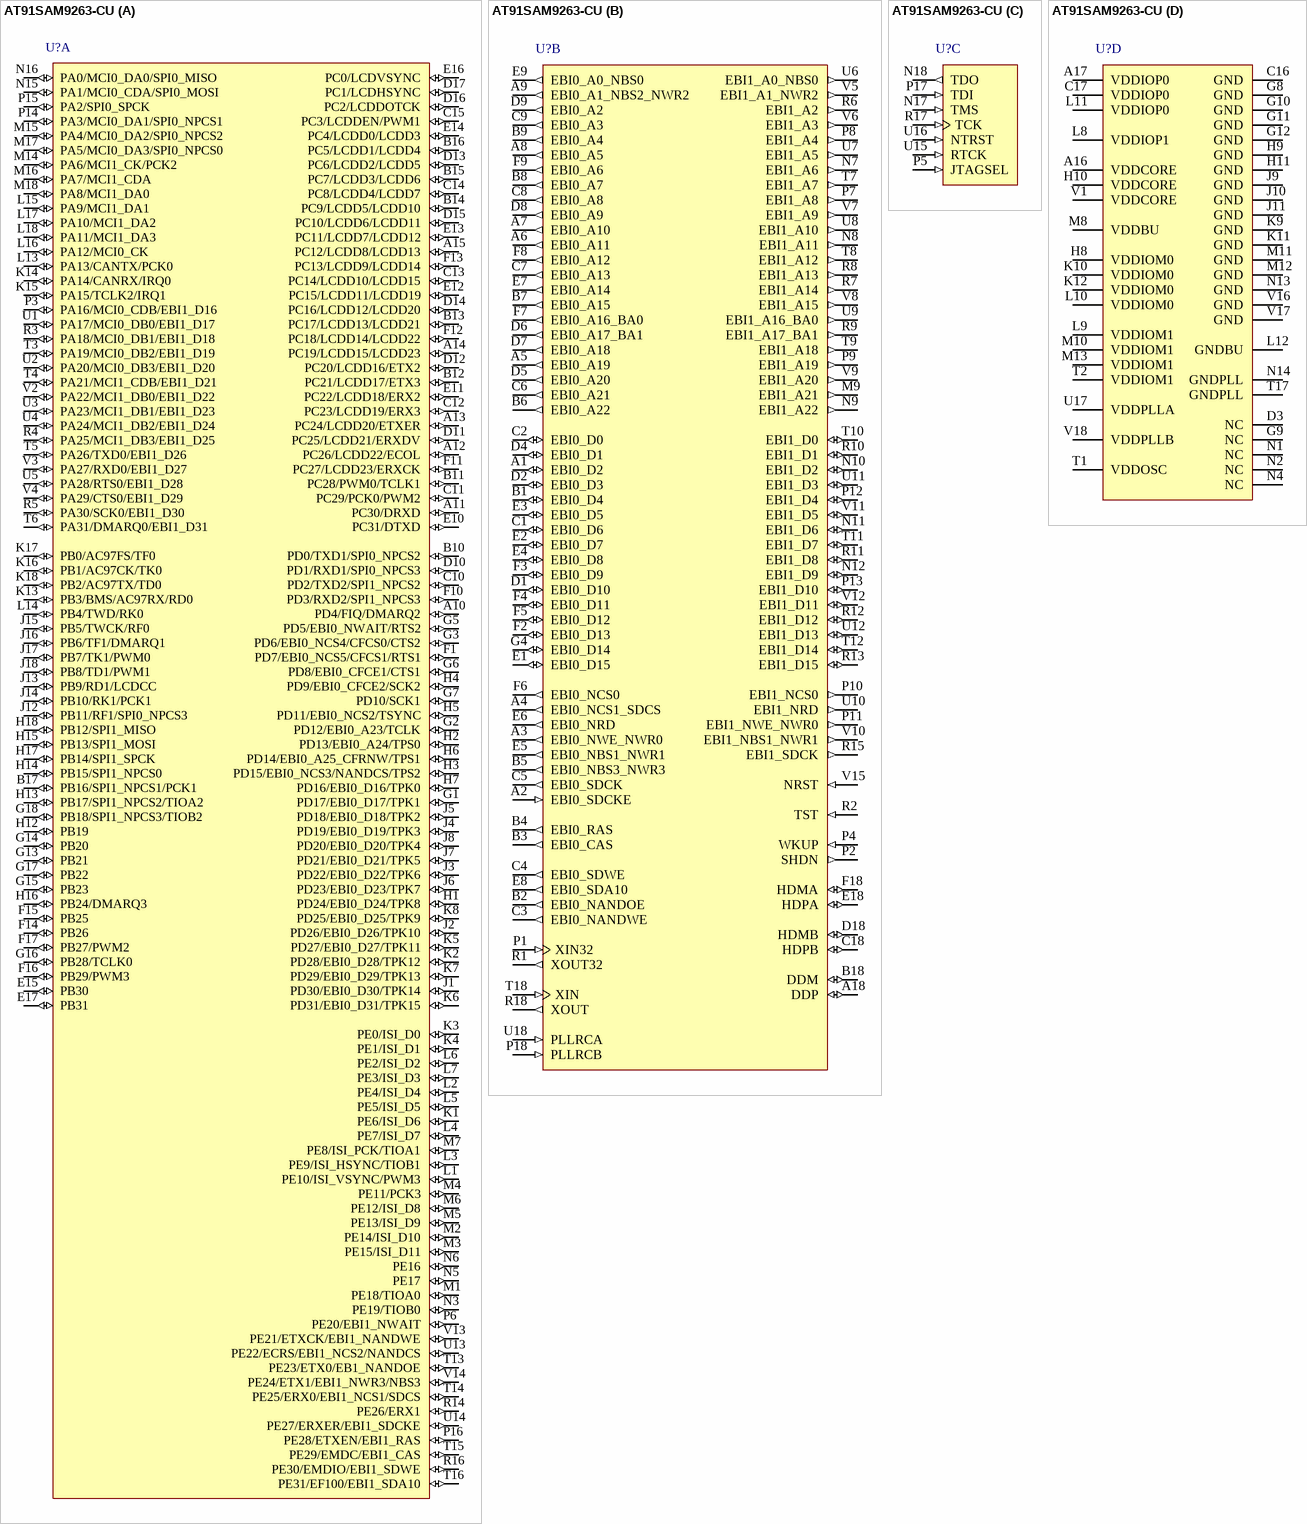
[diagram p50: symbol AT91SAM9263-CU]